# Altium integrated library QuickLogic pASIC 3.IntLib: 195 symbols (part 8 of 15)
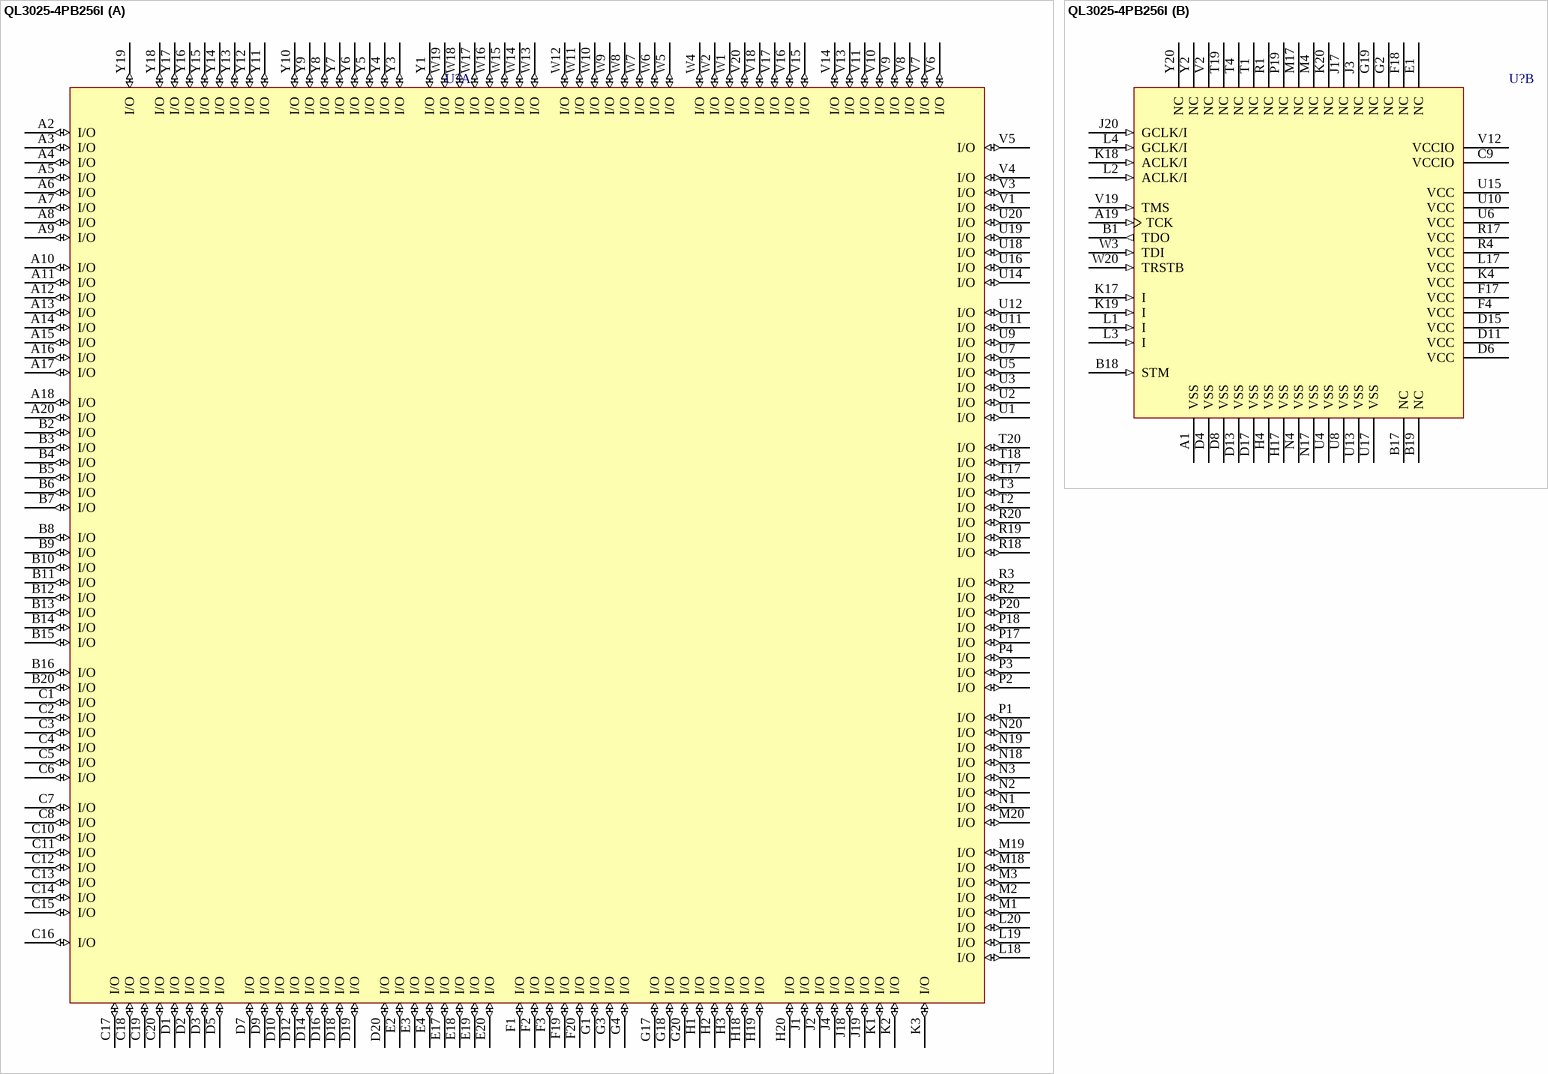
[diagram p138: symbol QL3025-4PB256I]

## QL3025-4PB256I
designator U?
3.3V and 5.0V FPGA, 204 I/Os Max; Published: 21-May-2003; LatestRevisionDate: 13-Apr-2006; LatestRevisionNote: IPC-7351 Footprint Added.; DatasheetVersion: Rev. B, April 1999; PackageVersion: Sep-2002; PackageReference: PB256; Publisher: Altium Limited; PackageDescription: 256-Ball Ball Grid Array 1.27 mm Pitch; ComponentLink1Description: Manufacturer Link; ComponentLink1URL: http://www.quicklogic.com/; ComponentLink2Description: Datasheet; ComponentLink2URL: http://www.quicklogic.com/images/QL3025_DS.pdf
footprint PB256 (BGA, 256-Leads, Body 27x27mm, Pitch 1.27mm)
3D model QL3025-PB256 (256-Ball Ball Grid Array 1.27 mm Pitch)
part A pins: A2 I/O (io), A3 I/O (io), A4 I/O (io), A5 I/O (io), A6 I/O (io), A7 I/O (io), A8 I/O (io), A9 I/O (io), A10 I/O (io), A11 I/O (io), A12 I/O (io), A13 I/O (io), A14 I/O (io), A15 I/O (io), A16 I/O (io), A17 I/O (io), A18 I/O (io), A20 I/O (io), B2 I/O (io), B3 I/O (io), B4 I/O (io), B5 I/O (io), B6 I/O (io), B7 I/O (io), B8 I/O (io), B9 I/O (io), B10 I/O (io), B11 I/O (io), B12 I/O (io), B13 I/O (io), B14 I/O (io), B15 I/O (io), B16 I/O (io), B20 I/O (io), C1 I/O (io), C2 I/O (io), C3 I/O (io), C4 I/O (io), C5 I/O (io), C6 I/O (io), C7 I/O (io), C8 I/O (io), C10 I/O (io), C11 I/O (io), C12 I/O (io), C13 I/O (io), C14 I/O (io), C15 I/O (io), C16 I/O (io), C17 I/O (io), C18 I/O (io), C19 I/O (io), C20 I/O (io), D1 I/O (io), D2 I/O (io), D3 I/O (io), D5 I/O (io), D7 I/O (io), D9 I/O (io), D10 I/O (io), D12 I/O (io), D14 I/O (io), D16 I/O (io), D18 I/O (io), D19 I/O (io), D20 I/O (io), E2 I/O (io), E3 I/O (io), E4 I/O (io), E17 I/O (io), E18 I/O (io), E19 I/O (io), E20 I/O (io), F1 I/O (io), F2 I/O (io), F3 I/O (io), F19 I/O (io), F20 I/O (io), G1 I/O (io), G3 I/O (io), G4 I/O (io), G17 I/O (io), G18 I/O (io), G20 I/O (io), H1 I/O (io), H2 I/O (io), H3 I/O (io), H18 I/O (io), H19 I/O (io), H20 I/O (io), J1 I/O (io), J2 I/O (io), J4 I/O (io), J18 I/O (io), J19 I/O (io), K1 I/O (io), K2 I/O (io), K3 I/O (io), L18 I/O (io), L19 I/O (io), L20 I/O (io), M1 I/O (io), M2 I/O (io), M3 I/O (io), M18 I/O (io), M19 I/O (io), M20 I/O (io), N1 I/O (io), N2 I/O (io), N3 I/O (io), N18 I/O (io), N19 I/O (io), N20 I/O (io), P1 I/O (io), P2 I/O (io), P3 I/O (io), P4 I/O (io), P17 I/O (io), P18 I/O (io), P20 I/O (io), R2 I/O (io), R3 I/O (io), R18 I/O (io), R19 I/O (io), R20 I/O (io), T2 I/O (io), T3 I/O (io), T17 I/O (io), T18 I/O (io), T20 I/O (io), U1 I/O (io), U2 I/O (io), U3 I/O (io), U5 I/O (io), U7 I/O (io), U9 I/O (io), U11 I/O (io), U12 I/O (io), U14 I/O (io), U16 I/O (io), U18 I/O (io), U19 I/O (io), U20 I/O (io), V1 I/O (io), V3 I/O (io), V4 I/O (io), V5 I/O (io), V6 I/O (io), V7 I/O (io), V8 I/O (io), V9 I/O (io), V10 I/O (io), V11 I/O (io), V13 I/O (io), V14 I/O (io), V15 I/O (io), V16 I/O (io), V17 I/O (io), V18 I/O (io), V20 I/O (io), W1 I/O (io), W2 I/O (io), W4 I/O (io), W5 I/O (io), W6 I/O (io), W7 I/O (io), W8 I/O (io), W9 I/O (io), W10 I/O (io), W11 I/O (io), W12 I/O (io), W13 I/O (io), W14 I/O (io), W15 I/O (io), W16 I/O (io), W17 I/O (io), W18 I/O (io), W19 I/O (io), Y1 I/O (io), Y3 I/O (io), Y4 I/O (io), Y5 I/O (io), Y6 I/O (io), Y7 I/O (io), Y8 I/O (io), Y9 I/O (io), Y10 I/O (io), Y11 I/O (io), Y12 I/O (io), Y13 I/O (io), Y14 I/O (io), Y15 I/O (io), Y16 I/O (io), Y17 I/O (io), Y18 I/O (io), Y19 I/O (io)
part B pins: A1 VSS (power), A19 TCK (in), B1 TDO (out), B17 NC, B18 STM (in), B19 NC, C9 VCCIO (power), D4 VSS (power), D6 VCC (power), D8 VSS (power), D11 VCC (power), D13 VSS (power), D15 VCC (power), D17 VSS (power), E1 NC, F4 VCC (power), F17 VCC (power), F18 NC, G2 NC, G19 NC, H4 VSS (power), H17 VSS (power), J3 NC, J17 NC, J20 GCLK/I (in), K4 VCC (power), K17 I (in), K18 ACLK/I (in), K19 I (in), K20 NC, L1 I (in), L2 ACLK/I (in), L3 I (in), L4 GCLK/I (in), L17 VCC (power), M4 NC, M17 NC, N4 VSS (power), N17 VSS (power), P19 NC, R1 NC, R4 VCC (power), R17 VCC (power), T1 NC, T4 NC, T19 NC, U4 VSS (power), U6 VCC (power), U8 VSS (power), U10 VCC (power), U13 VSS (power), U15 VCC (power), U17 VSS (power), V2 NC, V12 VCCIO (power), V19 TMS (in), W3 TDI (in), W20 TRSTB (in), Y2 NC, Y20 NC

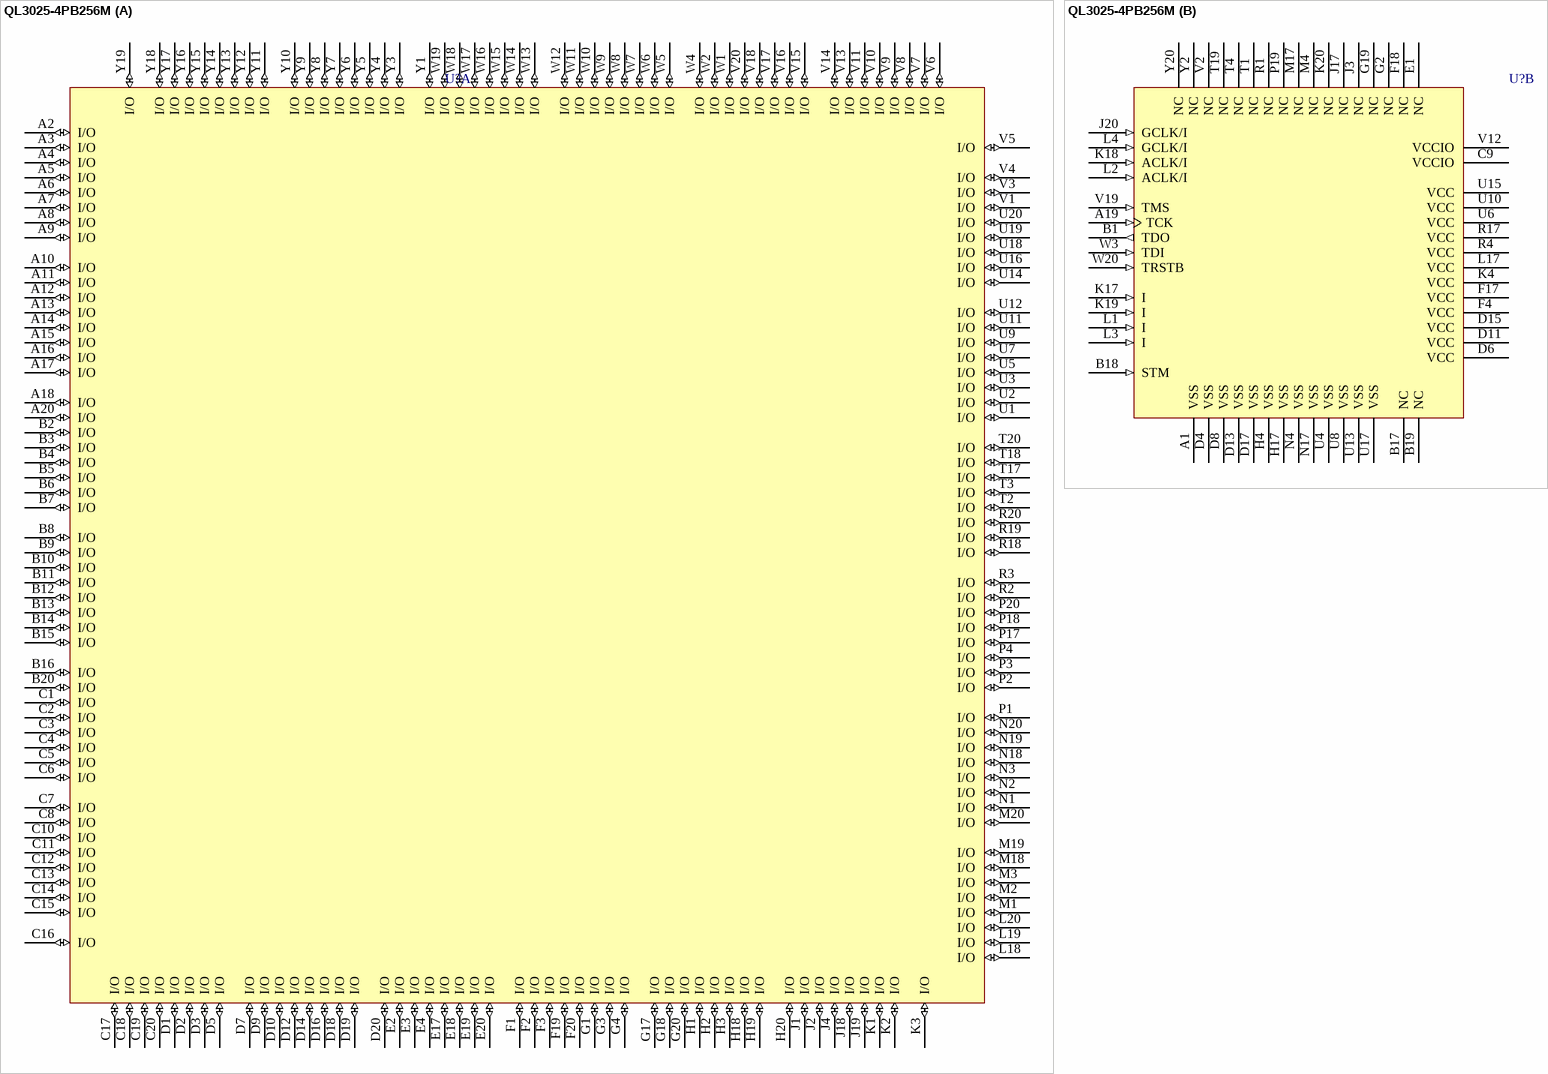
[diagram p55: symbol QL3025-4PB256M]

## QL3025-4PB256M
designator U?
3.3V and 5.0V FPGA, 204 I/Os Max; Published: 21-May-2003; LatestRevisionDate: 13-Apr-2006; LatestRevisionNote: IPC-7351 Footprint Added.; DatasheetVersion: Rev. B, April 1999; PackageVersion: Sep-2002; PackageReference: PB256; Publisher: Altium Limited; PackageDescription: 256-Ball Ball Grid Array 1.27 mm Pitch; ComponentLink1Description: Manufacturer Link; ComponentLink1URL: http://www.quicklogic.com/; ComponentLink2Description: Datasheet; ComponentLink2URL: http://www.quicklogic.com/images/QL3025_DS.pdf
footprint PB256 (BGA, 256-Leads, Body 27x27mm, Pitch 1.27mm)
3D model QL3025-PB256 (256-Ball Ball Grid Array 1.27 mm Pitch)
part A pins: A2 I/O (io), A3 I/O (io), A4 I/O (io), A5 I/O (io), A6 I/O (io), A7 I/O (io), A8 I/O (io), A9 I/O (io), A10 I/O (io), A11 I/O (io), A12 I/O (io), A13 I/O (io), A14 I/O (io), A15 I/O (io), A16 I/O (io), A17 I/O (io), A18 I/O (io), A20 I/O (io), B2 I/O (io), B3 I/O (io), B4 I/O (io), B5 I/O (io), B6 I/O (io), B7 I/O (io), B8 I/O (io), B9 I/O (io), B10 I/O (io), B11 I/O (io), B12 I/O (io), B13 I/O (io), B14 I/O (io), B15 I/O (io), B16 I/O (io), B20 I/O (io), C1 I/O (io), C2 I/O (io), C3 I/O (io), C4 I/O (io), C5 I/O (io), C6 I/O (io), C7 I/O (io), C8 I/O (io), C10 I/O (io), C11 I/O (io), C12 I/O (io), C13 I/O (io), C14 I/O (io), C15 I/O (io), C16 I/O (io), C17 I/O (io), C18 I/O (io), C19 I/O (io), C20 I/O (io), D1 I/O (io), D2 I/O (io), D3 I/O (io), D5 I/O (io), D7 I/O (io), D9 I/O (io), D10 I/O (io), D12 I/O (io), D14 I/O (io), D16 I/O (io), D18 I/O (io), D19 I/O (io), D20 I/O (io), E2 I/O (io), E3 I/O (io), E4 I/O (io), E17 I/O (io), E18 I/O (io), E19 I/O (io), E20 I/O (io), F1 I/O (io), F2 I/O (io), F3 I/O (io), F19 I/O (io), F20 I/O (io), G1 I/O (io), G3 I/O (io), G4 I/O (io), G17 I/O (io), G18 I/O (io), G20 I/O (io), H1 I/O (io), H2 I/O (io), H3 I/O (io), H18 I/O (io), H19 I/O (io), H20 I/O (io), J1 I/O (io), J2 I/O (io), J4 I/O (io), J18 I/O (io), J19 I/O (io), K1 I/O (io), K2 I/O (io), K3 I/O (io), L18 I/O (io), L19 I/O (io), L20 I/O (io), M1 I/O (io), M2 I/O (io), M3 I/O (io), M18 I/O (io), M19 I/O (io), M20 I/O (io), N1 I/O (io), N2 I/O (io), N3 I/O (io), N18 I/O (io), N19 I/O (io), N20 I/O (io), P1 I/O (io), P2 I/O (io), P3 I/O (io), P4 I/O (io), P17 I/O (io), P18 I/O (io), P20 I/O (io), R2 I/O (io), R3 I/O (io), R18 I/O (io), R19 I/O (io), R20 I/O (io), T2 I/O (io), T3 I/O (io), T17 I/O (io), T18 I/O (io), T20 I/O (io), U1 I/O (io), U2 I/O (io), U3 I/O (io), U5 I/O (io), U7 I/O (io), U9 I/O (io), U11 I/O (io), U12 I/O (io), U14 I/O (io), U16 I/O (io), U18 I/O (io), U19 I/O (io), U20 I/O (io), V1 I/O (io), V3 I/O (io), V4 I/O (io), V5 I/O (io), V6 I/O (io), V7 I/O (io), V8 I/O (io), V9 I/O (io), V10 I/O (io), V11 I/O (io), V13 I/O (io), V14 I/O (io), V15 I/O (io), V16 I/O (io), V17 I/O (io), V18 I/O (io), V20 I/O (io), W1 I/O (io), W2 I/O (io), W4 I/O (io), W5 I/O (io), W6 I/O (io), W7 I/O (io), W8 I/O (io), W9 I/O (io), W10 I/O (io), W11 I/O (io), W12 I/O (io), W13 I/O (io), W14 I/O (io), W15 I/O (io), W16 I/O (io), W17 I/O (io), W18 I/O (io), W19 I/O (io), Y1 I/O (io), Y3 I/O (io), Y4 I/O (io), Y5 I/O (io), Y6 I/O (io), Y7 I/O (io), Y8 I/O (io), Y9 I/O (io), Y10 I/O (io), Y11 I/O (io), Y12 I/O (io), Y13 I/O (io), Y14 I/O (io), Y15 I/O (io), Y16 I/O (io), Y17 I/O (io), Y18 I/O (io), Y19 I/O (io)
part B pins: A1 VSS (power), A19 TCK (in), B1 TDO (out), B17 NC, B18 STM (in), B19 NC, C9 VCCIO (power), D4 VSS (power), D6 VCC (power), D8 VSS (power), D11 VCC (power), D13 VSS (power), D15 VCC (power), D17 VSS (power), E1 NC, F4 VCC (power), F17 VCC (power), F18 NC, G2 NC, G19 NC, H4 VSS (power), H17 VSS (power), J3 NC, J17 NC, J20 GCLK/I (in), K4 VCC (power), K17 I (in), K18 ACLK/I (in), K19 I (in), K20 NC, L1 I (in), L2 ACLK/I (in), L3 I (in), L4 GCLK/I (in), L17 VCC (power), M4 NC, M17 NC, N4 VSS (power), N17 VSS (power), P19 NC, R1 NC, R4 VCC (power), R17 VCC (power), T1 NC, T4 NC, T19 NC, U4 VSS (power), U6 VCC (power), U8 VSS (power), U10 VCC (power), U13 VSS (power), U15 VCC (power), U17 VSS (power), V2 NC, V12 VCCIO (power), V19 TMS (in), W3 TDI (in), W20 TRSTB (in), Y2 NC, Y20 NC

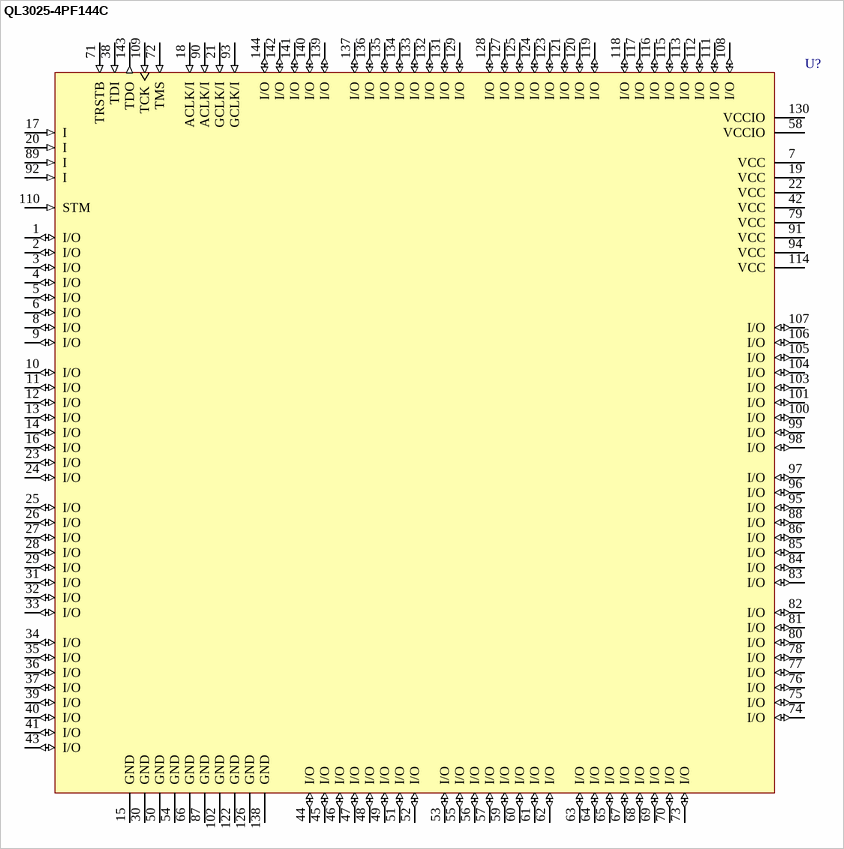
[diagram p56: symbol QL3025-4PF144C]

## QL3025-4PF144C
designator U?
3.3V and 5.0V FPGA, 118 I/Os Max; Published: 21-May-2003; LatestRevisionDate: 13-Apr-2006; LatestRevisionNote: IPC-7351 Footprint Added.; DatasheetVersion: Rev. B, April 1999; PackageVersion: Feb-1992; PackageReference: PF144; Publisher: Altium Limited; PackageDescription: 144-Pin Thin Plastic Quad Flat Pack 0.5 mm Pitch; ComponentLink1Description: Manufacturer Link; ComponentLink1URL: http://www.quicklogic.com/; ComponentLink2Description: Datasheet; ComponentLink2URL: http://www.quicklogic.com/images/QL3025_DS.pdf
footprint PF144_N (Thin QFP, 144-Leads, Body 20x20mm, Pitch 0.5mm, IPC Medium Density)
footprint PF144_L (Thin QFP, 144-Leads, Body 20x20mm, Pitch 0.5mm, IPC High Density)
footprint PF144_M (Thin QFP, 144-Leads, Body 20x20mm, Pitch 0.5mm, IPC Low Density)
3D model QL3025-PF144 (144-Pin Thin Plastic Quad Flat Pack 0.5 mm Pitch)
pins: 1 I/O (io), 2 I/O (io), 3 I/O (io), 4 I/O (io), 5 I/O (io), 6 I/O (io), 7 VCC (power), 8 I/O (io), 9 I/O (io), 10 I/O (io), 11 I/O (io), 12 I/O (io), 13 I/O (io), 14 I/O (io), 15 GND (power), 16 I/O (io), 17 I (in), 18 ACLK/I (in), 19 VCC (power), 20 I (in), 21 GCLK/I (in), 22 VCC (power), 23 I/O (io), 24 I/O (io), 25 I/O (io), 26 I/O (io), 27 I/O (io), 28 I/O (io), 29 I/O (io), 30 GND (power), 31 I/O (io), 32 I/O (io), 33 I/O (io), 34 I/O (io), 35 I/O (io), 36 I/O (io), 37 I/O (io), 38 TDI (in), 39 I/O (io), 40 I/O (io), 41 I/O (io), 42 VCC (power), 43 I/O (io), 44 I/O (io), 45 I/O (io), 46 I/O (io), 47 I/O (io), 48 I/O (io), 49 I/O (io), 50 GND (power), 51 I/O (io), 52 I/O (io), 53 I/O (io), 54 GND (power), 55 I/O (io), 56 I/O (io), 57 I/O (io), 58 VCCIO (power), 59 I/O (io), 60 I/O (io), 61 I/O (io), 62 I/O (io), 63 I/O (io), 64 I/O (io), 65 I/O (io), 66 GND (power), 67 I/O (io), 68 I/O (io), 69 I/O (io), 70 I/O (io), 71 TRSTB (in), 72 TMS (in), 73 I/O (io), 74 I/O (io), 75 I/O (io), 76 I/O (io), 77 I/O (io), 78 I/O (io), 79 VCC (power), 80 I/O (io), 81 I/O (io), 82 I/O (io), 83 I/O (io), 84 I/O (io), 85 I/O (io), 86 I/O (io), 87 GND (power), 88 I/O (io), 89 I (in), 90 ACLK/I (in), 91 VCC (power), 92 I (in), 93 GCLK/I (in), 94 VCC (power), 95 I/O (io), 96 I/O (io), 97 I/O (io), 98 I/O (io), 99 I/O (io), 100 I/O (io), 101 I/O (io), 102 GND (power), 103 I/O (io), 104 I/O (io), 105 I/O (io), 106 I/O (io), 107 I/O (io), 108 I/O (io), 109 TCK (in), 110 STM (in), 111 I/O (io), 112 I/O (io), 113 I/O (io), 114 VCC (power), 115 I/O (io), 116 I/O (io), 117 I/O (io), 118 I/O (io), 119 I/O (io), 120 I/O (io), 121 I/O (io), 122 GND (power), 123 I/O (io), 124 I/O (io), 125 I/O (io), 126 GND (power), 127 I/O (io), 128 I/O (io), 129 I/O (io), 130 VCCIO (power), 131 I/O (io), 132 I/O (io), 133 I/O (io), 134 I/O (io), 135 I/O (io), 136 I/O (io), 137 I/O (io), 138 GND (power), 139 I/O (io), 140 I/O (io), 141 I/O (io), 142 I/O (io), 143 TDO (out), 144 I/O (io)

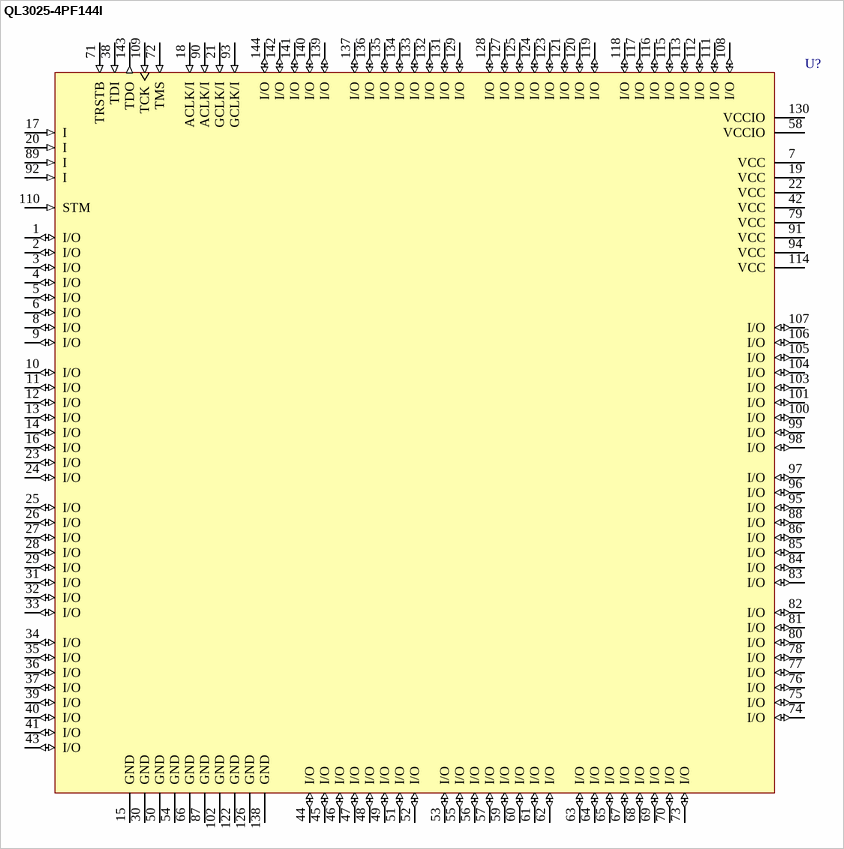
[diagram p57: symbol QL3025-4PF144I]

## QL3025-4PF144I
designator U?
3.3V and 5.0V FPGA, 118 I/Os Max; Published: 21-May-2003; LatestRevisionDate: 13-Apr-2006; LatestRevisionNote: IPC-7351 Footprint Added.; DatasheetVersion: Rev. B, April 1999; PackageVersion: Feb-1992; PackageReference: PF144; Publisher: Altium Limited; PackageDescription: 144-Pin Thin Plastic Quad Flat Pack 0.5 mm Pitch; ComponentLink1Description: Manufacturer Link; ComponentLink1URL: http://www.quicklogic.com/; ComponentLink2Description: Datasheet; ComponentLink2URL: http://www.quicklogic.com/images/QL3025_DS.pdf
footprint PF144_N (Thin QFP, 144-Leads, Body 20x20mm, Pitch 0.5mm, IPC Medium Density)
footprint PF144_L (Thin QFP, 144-Leads, Body 20x20mm, Pitch 0.5mm, IPC High Density)
footprint PF144_M (Thin QFP, 144-Leads, Body 20x20mm, Pitch 0.5mm, IPC Low Density)
3D model QL3025-PF144 (144-Pin Thin Plastic Quad Flat Pack 0.5 mm Pitch)
pins: 1 I/O (io), 2 I/O (io), 3 I/O (io), 4 I/O (io), 5 I/O (io), 6 I/O (io), 7 VCC (power), 8 I/O (io), 9 I/O (io), 10 I/O (io), 11 I/O (io), 12 I/O (io), 13 I/O (io), 14 I/O (io), 15 GND (power), 16 I/O (io), 17 I (in), 18 ACLK/I (in), 19 VCC (power), 20 I (in), 21 GCLK/I (in), 22 VCC (power), 23 I/O (io), 24 I/O (io), 25 I/O (io), 26 I/O (io), 27 I/O (io), 28 I/O (io), 29 I/O (io), 30 GND (power), 31 I/O (io), 32 I/O (io), 33 I/O (io), 34 I/O (io), 35 I/O (io), 36 I/O (io), 37 I/O (io), 38 TDI (in), 39 I/O (io), 40 I/O (io), 41 I/O (io), 42 VCC (power), 43 I/O (io), 44 I/O (io), 45 I/O (io), 46 I/O (io), 47 I/O (io), 48 I/O (io), 49 I/O (io), 50 GND (power), 51 I/O (io), 52 I/O (io), 53 I/O (io), 54 GND (power), 55 I/O (io), 56 I/O (io), 57 I/O (io), 58 VCCIO (power), 59 I/O (io), 60 I/O (io), 61 I/O (io), 62 I/O (io), 63 I/O (io), 64 I/O (io), 65 I/O (io), 66 GND (power), 67 I/O (io), 68 I/O (io), 69 I/O (io), 70 I/O (io), 71 TRSTB (in), 72 TMS (in), 73 I/O (io), 74 I/O (io), 75 I/O (io), 76 I/O (io), 77 I/O (io), 78 I/O (io), 79 VCC (power), 80 I/O (io), 81 I/O (io), 82 I/O (io), 83 I/O (io), 84 I/O (io), 85 I/O (io), 86 I/O (io), 87 GND (power), 88 I/O (io), 89 I (in), 90 ACLK/I (in), 91 VCC (power), 92 I (in), 93 GCLK/I (in), 94 VCC (power), 95 I/O (io), 96 I/O (io), 97 I/O (io), 98 I/O (io), 99 I/O (io), 100 I/O (io), 101 I/O (io), 102 GND (power), 103 I/O (io), 104 I/O (io), 105 I/O (io), 106 I/O (io), 107 I/O (io), 108 I/O (io), 109 TCK (in), 110 STM (in), 111 I/O (io), 112 I/O (io), 113 I/O (io), 114 VCC (power), 115 I/O (io), 116 I/O (io), 117 I/O (io), 118 I/O (io), 119 I/O (io), 120 I/O (io), 121 I/O (io), 122 GND (power), 123 I/O (io), 124 I/O (io), 125 I/O (io), 126 GND (power), 127 I/O (io), 128 I/O (io), 129 I/O (io), 130 VCCIO (power), 131 I/O (io), 132 I/O (io), 133 I/O (io), 134 I/O (io), 135 I/O (io), 136 I/O (io), 137 I/O (io), 138 GND (power), 139 I/O (io), 140 I/O (io), 141 I/O (io), 142 I/O (io), 143 TDO (out), 144 I/O (io)

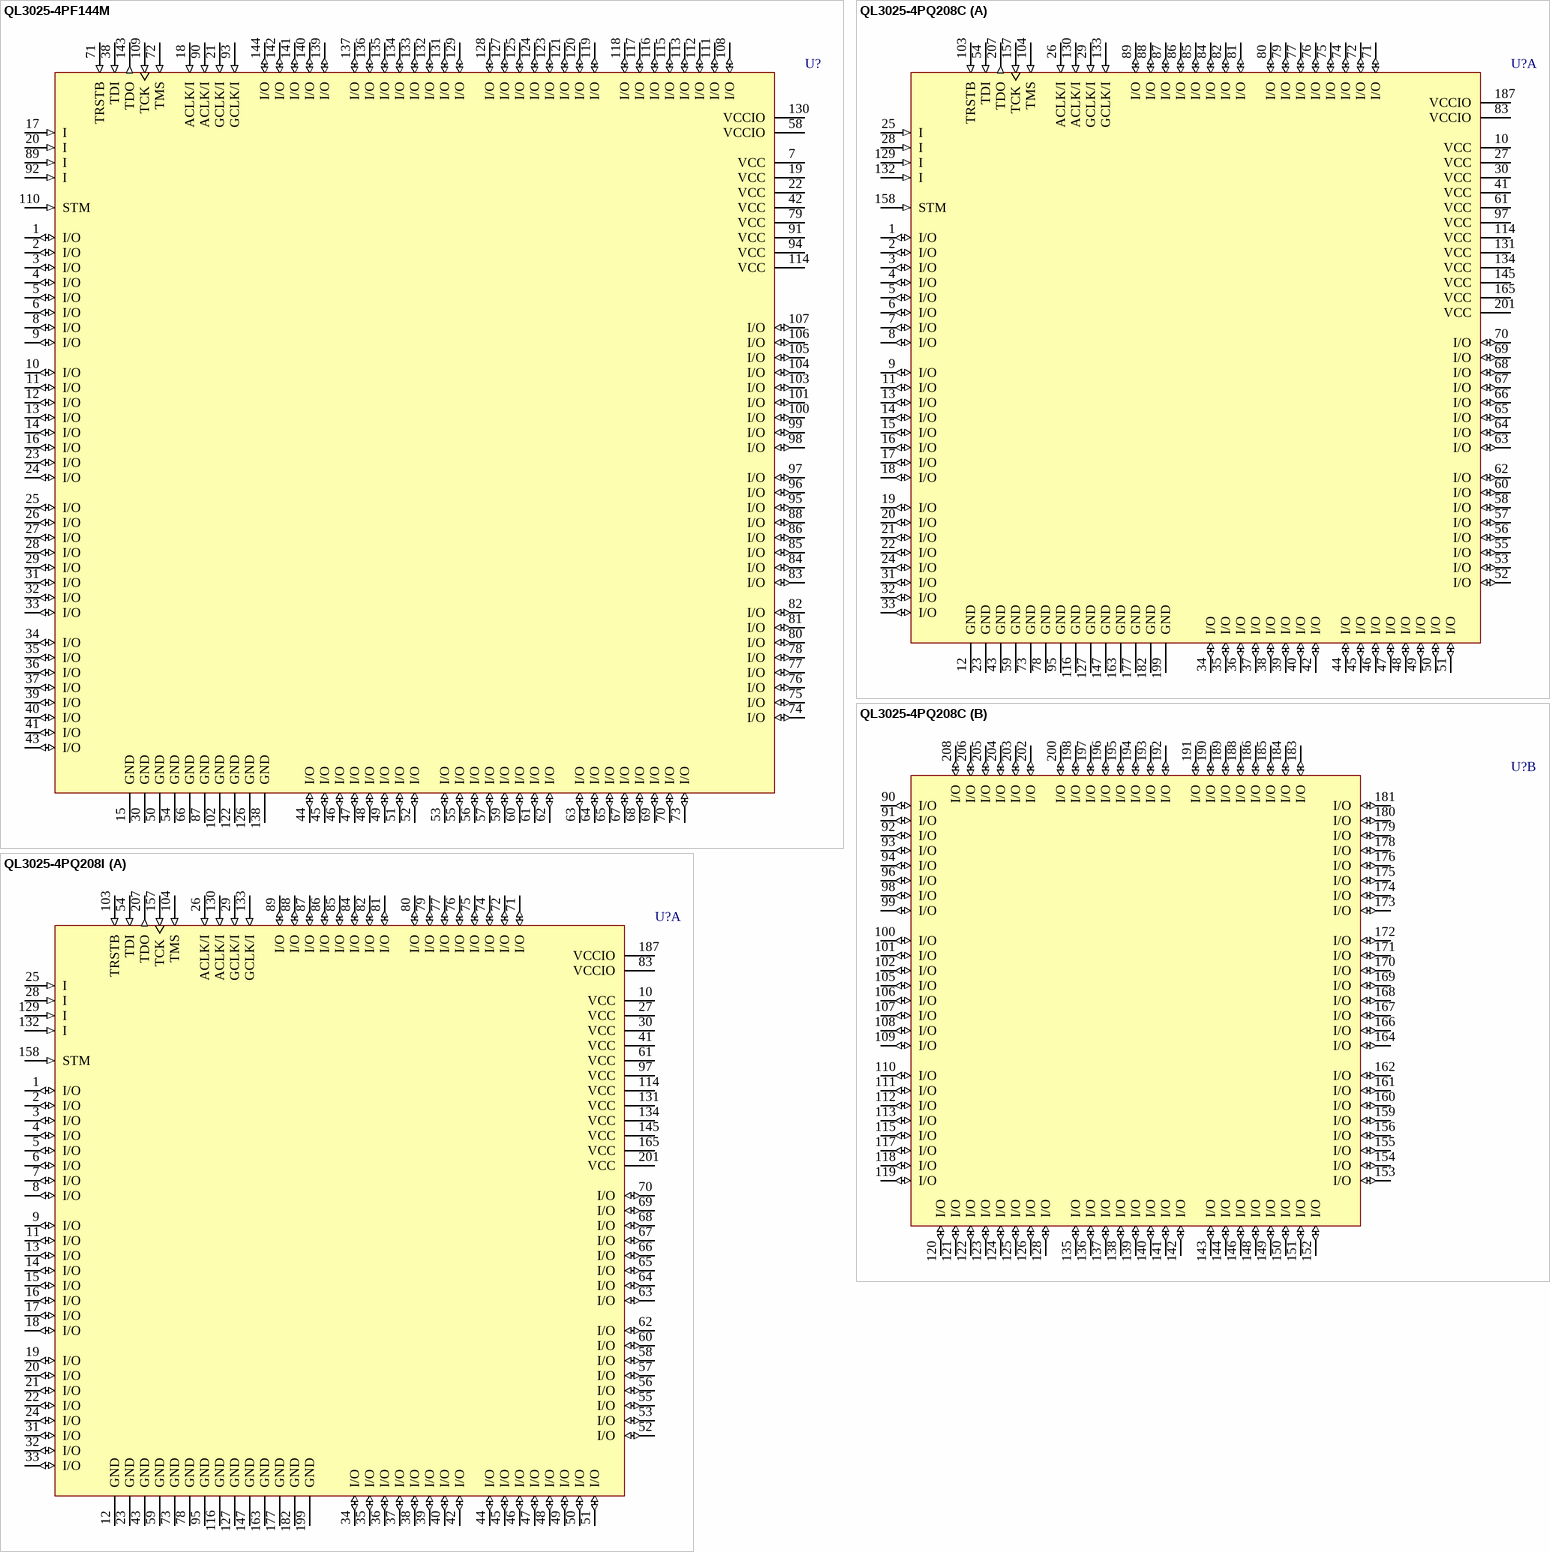
[diagram p58: symbols QL3025-4PF144M to QL3025-4PQ208I]

## QL3025-4PF144M
designator U?
3.3V and 5.0V FPGA, 118 I/Os Max; Published: 21-May-2003; LatestRevisionDate: 13-Apr-2006; LatestRevisionNote: IPC-7351 Footprint Added.; DatasheetVersion: Rev. B, April 1999; PackageVersion: Feb-1992; PackageReference: PF144; Publisher: Altium Limited; PackageDescription: 144-Pin Thin Plastic Quad Flat Pack 0.5 mm Pitch; ComponentLink1Description: Manufacturer Link; ComponentLink1URL: http://www.quicklogic.com/; ComponentLink2Description: Datasheet; ComponentLink2URL: http://www.quicklogic.com/images/QL3025_DS.pdf
footprint PF144_N (Thin QFP, 144-Leads, Body 20x20mm, Pitch 0.5mm, IPC Medium Density)
footprint PF144_L (Thin QFP, 144-Leads, Body 20x20mm, Pitch 0.5mm, IPC High Density)
footprint PF144_M (Thin QFP, 144-Leads, Body 20x20mm, Pitch 0.5mm, IPC Low Density)
3D model QL3025-PF144 (144-Pin Thin Plastic Quad Flat Pack 0.5 mm Pitch)
pins: 1 I/O (io), 2 I/O (io), 3 I/O (io), 4 I/O (io), 5 I/O (io), 6 I/O (io), 7 VCC (power), 8 I/O (io), 9 I/O (io), 10 I/O (io), 11 I/O (io), 12 I/O (io), 13 I/O (io), 14 I/O (io), 15 GND (power), 16 I/O (io), 17 I (in), 18 ACLK/I (in), 19 VCC (power), 20 I (in), 21 GCLK/I (in), 22 VCC (power), 23 I/O (io), 24 I/O (io), 25 I/O (io), 26 I/O (io), 27 I/O (io), 28 I/O (io), 29 I/O (io), 30 GND (power), 31 I/O (io), 32 I/O (io), 33 I/O (io), 34 I/O (io), 35 I/O (io), 36 I/O (io), 37 I/O (io), 38 TDI (in), 39 I/O (io), 40 I/O (io), 41 I/O (io), 42 VCC (power), 43 I/O (io), 44 I/O (io), 45 I/O (io), 46 I/O (io), 47 I/O (io), 48 I/O (io), 49 I/O (io), 50 GND (power), 51 I/O (io), 52 I/O (io), 53 I/O (io), 54 GND (power), 55 I/O (io), 56 I/O (io), 57 I/O (io), 58 VCCIO (power), 59 I/O (io), 60 I/O (io), 61 I/O (io), 62 I/O (io), 63 I/O (io), 64 I/O (io), 65 I/O (io), 66 GND (power), 67 I/O (io), 68 I/O (io), 69 I/O (io), 70 I/O (io), 71 TRSTB (in), 72 TMS (in), 73 I/O (io), 74 I/O (io), 75 I/O (io), 76 I/O (io), 77 I/O (io), 78 I/O (io), 79 VCC (power), 80 I/O (io), 81 I/O (io), 82 I/O (io), 83 I/O (io), 84 I/O (io), 85 I/O (io), 86 I/O (io), 87 GND (power), 88 I/O (io), 89 I (in), 90 ACLK/I (in), 91 VCC (power), 92 I (in), 93 GCLK/I (in), 94 VCC (power), 95 I/O (io), 96 I/O (io), 97 I/O (io), 98 I/O (io), 99 I/O (io), 100 I/O (io), 101 I/O (io), 102 GND (power), 103 I/O (io), 104 I/O (io), 105 I/O (io), 106 I/O (io), 107 I/O (io), 108 I/O (io), 109 TCK (in), 110 STM (in), 111 I/O (io), 112 I/O (io), 113 I/O (io), 114 VCC (power), 115 I/O (io), 116 I/O (io), 117 I/O (io), 118 I/O (io), 119 I/O (io), 120 I/O (io), 121 I/O (io), 122 GND (power), 123 I/O (io), 124 I/O (io), 125 I/O (io), 126 GND (power), 127 I/O (io), 128 I/O (io), 129 I/O (io), 130 VCCIO (power), 131 I/O (io), 132 I/O (io), 133 I/O (io), 134 I/O (io), 135 I/O (io), 136 I/O (io), 137 I/O (io), 138 GND (power), 139 I/O (io), 140 I/O (io), 141 I/O (io), 142 I/O (io), 143 TDO (out), 144 I/O (io)

## QL3025-4PQ208C
designator U?
3.3V and 5.0V FPGA, 174 I/Os Max; Published: 21-May-2003; LatestRevisionDate: 13-Apr-2006; LatestRevisionNote: IPC-7351 Footprint Added.; DatasheetVersion: Rev. B, April 1999; PackageVersion: Feb-1995; PackageReference: PQ208; Publisher: Altium Limited; PackageDescription: 208-Pin Shrink Quad Flat Pack 0.5 mm Pitch; ComponentLink1Description: Manufacturer Link; ComponentLink1URL: http://www.quicklogic.com/; ComponentLink2Description: Datasheet; ComponentLink2URL: http://www.quicklogic.com/images/QL3025_DS.pdf
footprint PQ208_N (Shrink QFP, 208-Leads, Body 28x28mm, Pitch 0.5mm, IPC Medium Density)
footprint PQ208_L (Shrink QFP, 208-Leads, Body 28x28mm, Pitch 0.5mm, IPC High Density)
footprint PQ208_M (Shrink QFP, 208-Leads, Body 28x28mm, Pitch 0.5mm, IPC Low Density)
3D model QL3025-PQ208 (208-Pin Shrink Quad Flat Pack 0.5 mm Pitch)
part A pins: 1 I/O (io), 2 I/O (io), 3 I/O (io), 4 I/O (io), 5 I/O (io), 6 I/O (io), 7 I/O (io), 8 I/O (io), 9 I/O (io), 10 VCC (power), 11 I/O (io), 12 GND (power), 13 I/O (io), 14 I/O (io), 15 I/O (io), 16 I/O (io), 17 I/O (io), 18 I/O (io), 19 I/O (io), 20 I/O (io), 21 I/O (io), 22 I/O (io), 23 GND (power), 24 I/O (io), 25 I (in), 26 ACLK/I (in), 27 VCC (power), 28 I (in), 29 GCLK/I (in), 30 VCC (power), 31 I/O (io), 32 I/O (io), 33 I/O (io), 34 I/O (io), 35 I/O (io), 36 I/O (io), 37 I/O (io), 38 I/O (io), 39 I/O (io), 40 I/O (io), 41 VCC (power), 42 I/O (io), 43 GND (power), 44 I/O (io), 45 I/O (io), 46 I/O (io), 47 I/O (io), 48 I/O (io), 49 I/O (io), 50 I/O (io), 51 I/O (io), 52 I/O (io), 53 I/O (io), 54 TDI (in), 55 I/O (io), 56 I/O (io), 57 I/O (io), 58 I/O (io), 59 GND (power), 60 I/O (io), 61 VCC (power), 62 I/O (io), 63 I/O (io), 64 I/O (io), 65 I/O (io), 66 I/O (io), 67 I/O (io), 68 I/O (io), 69 I/O (io), 70 I/O (io), 71 I/O (io), 72 I/O (io), 73 GND (power), 74 I/O (io), 75 I/O (io), 76 I/O (io), 77 I/O (io), 78 GND (power), 79 I/O (io), 80 I/O (io), 81 I/O (io), 82 I/O (io), 83 VCCIO (power), 84 I/O (io), 85 I/O (io), 86 I/O (io), 87 I/O (io), 88 I/O (io), 89 I/O (io), 95 GND (power), 97 VCC (power), 103 TRSTB (in), 104 TMS (in), 114 VCC (power), 116 GND (power), 127 GND (power), 129 I (in), 130 ACLK/I (in), 131 VCC (power), 132 I (in), 133 GCLK/I (in), 134 VCC (power), 145 VCC (power), 147 GND (power), 157 TCK (in), 158 STM (in), 163 GND (power), 165 VCC (power), 177 GND (power), 182 GND (power), 187 VCCIO (power), 199 GND (power), 201 VCC (power), 207 TDO (out)
part B pins: 90 I/O (io), 91 I/O (io), 92 I/O (io), 93 I/O (io), 94 I/O (io), 96 I/O (io), 98 I/O (io), 99 I/O (io), 100 I/O (io), 101 I/O (io), 102 I/O (io), 105 I/O (io), 106 I/O (io), 107 I/O (io), 108 I/O (io), 109 I/O (io), 110 I/O (io), 111 I/O (io), 112 I/O (io), 113 I/O (io), 115 I/O (io), 117 I/O (io), 118 I/O (io), 119 I/O (io), 120 I/O (io), 121 I/O (io), 122 I/O (io), 123 I/O (io), 124 I/O (io), 125 I/O (io), 126 I/O (io), 128 I/O (io), 135 I/O (io), 136 I/O (io), 137 I/O (io), 138 I/O (io), 139 I/O (io), 140 I/O (io), 141 I/O (io), 142 I/O (io), 143 I/O (io), 144 I/O (io), 146 I/O (io), 148 I/O (io), 149 I/O (io), 150 I/O (io), 151 I/O (io), 152 I/O (io), 153 I/O (io), 154 I/O (io), 155 I/O (io), 156 I/O (io), 159 I/O (io), 160 I/O (io), 161 I/O (io), 162 I/O (io), 164 I/O (io), 166 I/O (io), 167 I/O (io), 168 I/O (io), 169 I/O (io), 170 I/O (io), 171 I/O (io), 172 I/O (io), 173 I/O (io), 174 I/O (io), 175 I/O (io), 176 I/O (io), 178 I/O (io), 179 I/O (io), 180 I/O (io), 181 I/O (io), 183 I/O (io), 184 I/O (io), 185 I/O (io), 186 I/O (io), 188 I/O (io), 189 I/O (io), 190 I/O (io), 191 I/O (io), 192 I/O (io), 193 I/O (io), 194 I/O (io), 195 I/O (io), 196 I/O (io), 197 I/O (io), 198 I/O (io), 200 I/O (io), 202 I/O (io), 203 I/O (io), 204 I/O (io), 205 I/O (io), 206 I/O (io), 208 I/O (io)

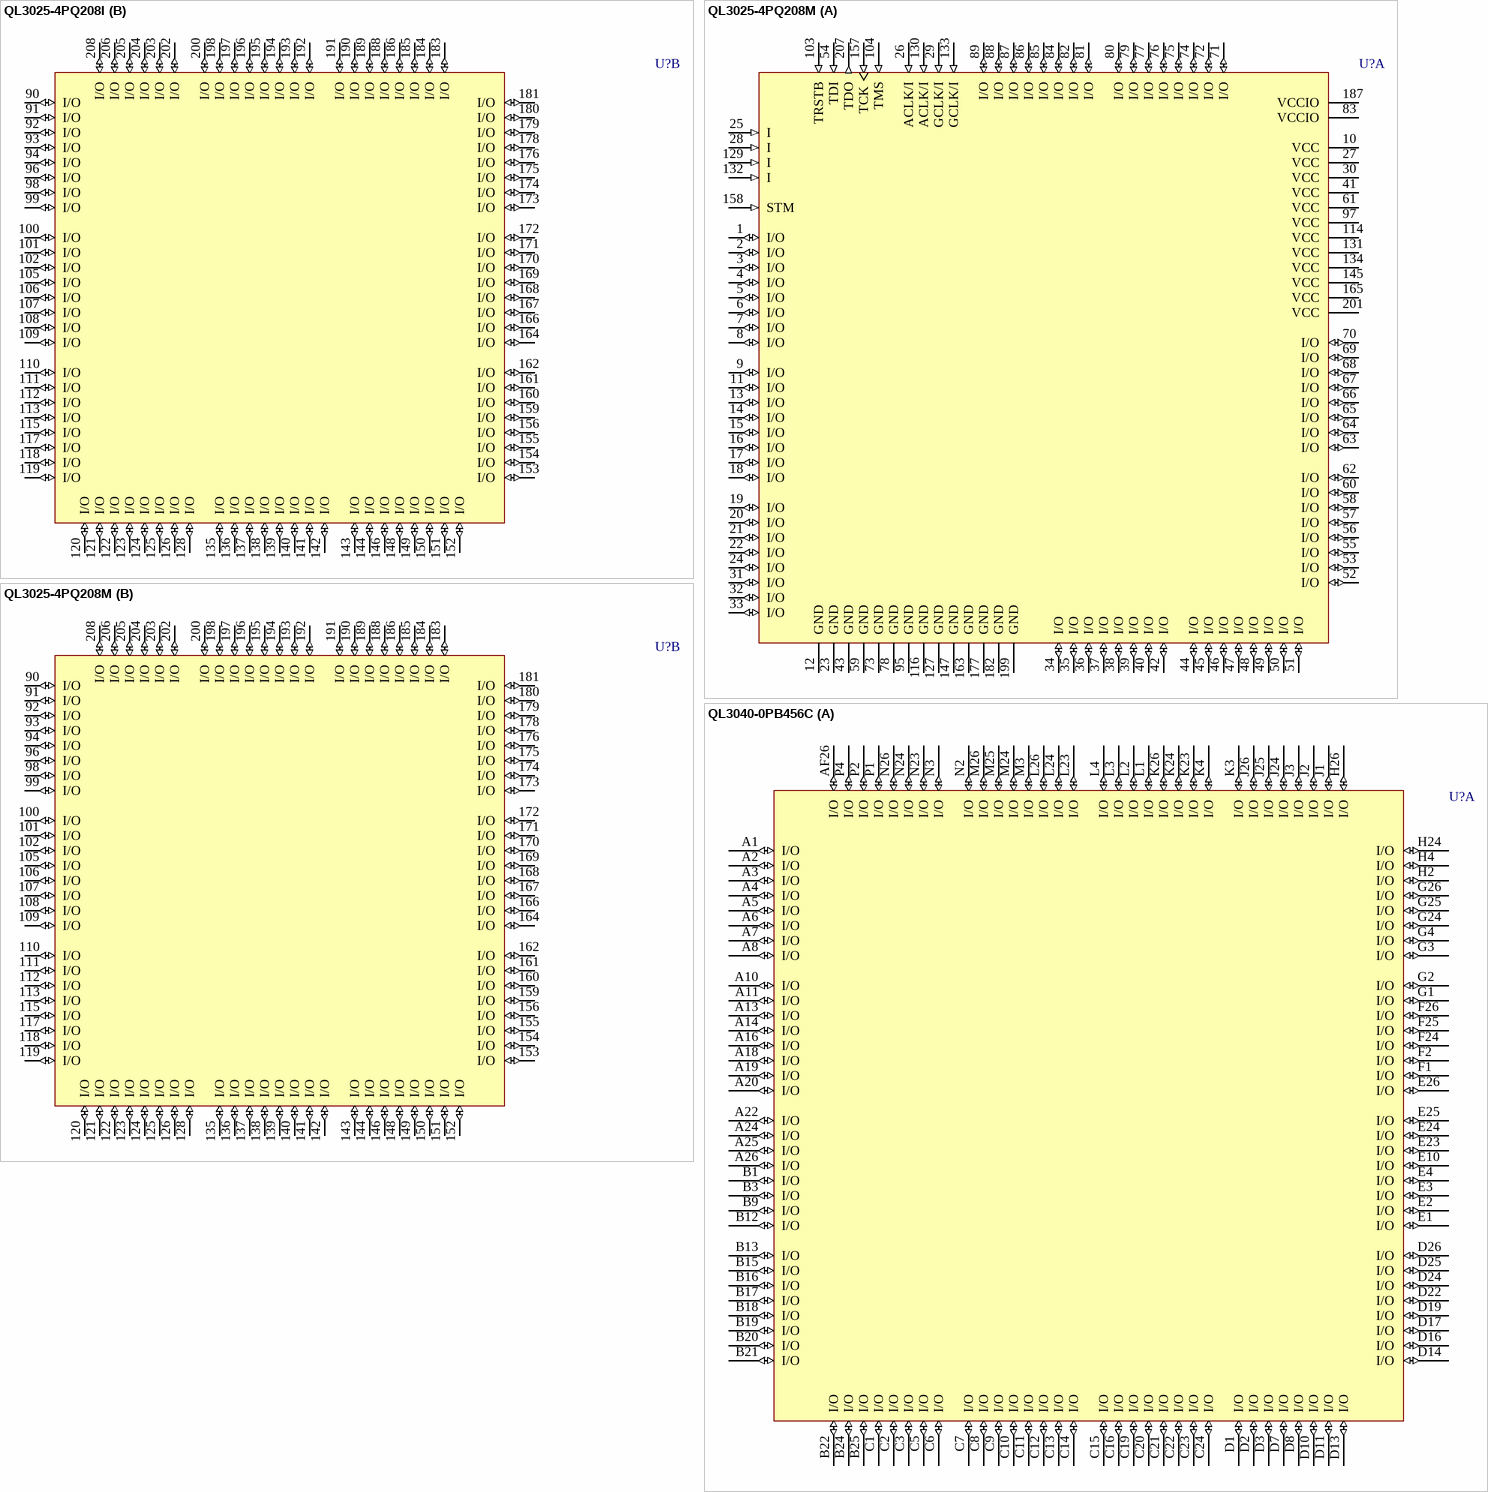
[diagram p59: symbols QL3025-4PQ208I to QL3040-0PB456C]

## QL3025-4PQ208I
designator U?
3.3V and 5.0V FPGA, 174 I/Os Max; Published: 21-May-2003; LatestRevisionDate: 13-Apr-2006; LatestRevisionNote: IPC-7351 Footprint Added.; DatasheetVersion: Rev. B, April 1999; PackageVersion: Feb-1995; PackageReference: PQ208; Publisher: Altium Limited; PackageDescription: 208-Pin Shrink Quad Flat Pack 0.5 mm Pitch; ComponentLink1Description: Manufacturer Link; ComponentLink1URL: http://www.quicklogic.com/; ComponentLink2Description: Datasheet; ComponentLink2URL: http://www.quicklogic.com/images/QL3025_DS.pdf
footprint PQ208_N (Shrink QFP, 208-Leads, Body 28x28mm, Pitch 0.5mm, IPC Medium Density)
footprint PQ208_L (Shrink QFP, 208-Leads, Body 28x28mm, Pitch 0.5mm, IPC High Density)
footprint PQ208_M (Shrink QFP, 208-Leads, Body 28x28mm, Pitch 0.5mm, IPC Low Density)
3D model QL3025-PQ208 (208-Pin Shrink Quad Flat Pack 0.5 mm Pitch)
part A pins: 1 I/O (io), 2 I/O (io), 3 I/O (io), 4 I/O (io), 5 I/O (io), 6 I/O (io), 7 I/O (io), 8 I/O (io), 9 I/O (io), 10 VCC (power), 11 I/O (io), 12 GND (power), 13 I/O (io), 14 I/O (io), 15 I/O (io), 16 I/O (io), 17 I/O (io), 18 I/O (io), 19 I/O (io), 20 I/O (io), 21 I/O (io), 22 I/O (io), 23 GND (power), 24 I/O (io), 25 I (in), 26 ACLK/I (in), 27 VCC (power), 28 I (in), 29 GCLK/I (in), 30 VCC (power), 31 I/O (io), 32 I/O (io), 33 I/O (io), 34 I/O (io), 35 I/O (io), 36 I/O (io), 37 I/O (io), 38 I/O (io), 39 I/O (io), 40 I/O (io), 41 VCC (power), 42 I/O (io), 43 GND (power), 44 I/O (io), 45 I/O (io), 46 I/O (io), 47 I/O (io), 48 I/O (io), 49 I/O (io), 50 I/O (io), 51 I/O (io), 52 I/O (io), 53 I/O (io), 54 TDI (in), 55 I/O (io), 56 I/O (io), 57 I/O (io), 58 I/O (io), 59 GND (power), 60 I/O (io), 61 VCC (power), 62 I/O (io), 63 I/O (io), 64 I/O (io), 65 I/O (io), 66 I/O (io), 67 I/O (io), 68 I/O (io), 69 I/O (io), 70 I/O (io), 71 I/O (io), 72 I/O (io), 73 GND (power), 74 I/O (io), 75 I/O (io), 76 I/O (io), 77 I/O (io), 78 GND (power), 79 I/O (io), 80 I/O (io), 81 I/O (io), 82 I/O (io), 83 VCCIO (power), 84 I/O (io), 85 I/O (io), 86 I/O (io), 87 I/O (io), 88 I/O (io), 89 I/O (io), 95 GND (power), 97 VCC (power), 103 TRSTB (in), 104 TMS (in), 114 VCC (power), 116 GND (power), 127 GND (power), 129 I (in), 130 ACLK/I (in), 131 VCC (power), 132 I (in), 133 GCLK/I (in), 134 VCC (power), 145 VCC (power), 147 GND (power), 157 TCK (in), 158 STM (in), 163 GND (power), 165 VCC (power), 177 GND (power), 182 GND (power), 187 VCCIO (power), 199 GND (power), 201 VCC (power), 207 TDO (out)
part B pins: 90 I/O (io), 91 I/O (io), 92 I/O (io), 93 I/O (io), 94 I/O (io), 96 I/O (io), 98 I/O (io), 99 I/O (io), 100 I/O (io), 101 I/O (io), 102 I/O (io), 105 I/O (io), 106 I/O (io), 107 I/O (io), 108 I/O (io), 109 I/O (io), 110 I/O (io), 111 I/O (io), 112 I/O (io), 113 I/O (io), 115 I/O (io), 117 I/O (io), 118 I/O (io), 119 I/O (io), 120 I/O (io), 121 I/O (io), 122 I/O (io), 123 I/O (io), 124 I/O (io), 125 I/O (io), 126 I/O (io), 128 I/O (io), 135 I/O (io), 136 I/O (io), 137 I/O (io), 138 I/O (io), 139 I/O (io), 140 I/O (io), 141 I/O (io), 142 I/O (io), 143 I/O (io), 144 I/O (io), 146 I/O (io), 148 I/O (io), 149 I/O (io), 150 I/O (io), 151 I/O (io), 152 I/O (io), 153 I/O (io), 154 I/O (io), 155 I/O (io), 156 I/O (io), 159 I/O (io), 160 I/O (io), 161 I/O (io), 162 I/O (io), 164 I/O (io), 166 I/O (io), 167 I/O (io), 168 I/O (io), 169 I/O (io), 170 I/O (io), 171 I/O (io), 172 I/O (io), 173 I/O (io), 174 I/O (io), 175 I/O (io), 176 I/O (io), 178 I/O (io), 179 I/O (io), 180 I/O (io), 181 I/O (io), 183 I/O (io), 184 I/O (io), 185 I/O (io), 186 I/O (io), 188 I/O (io), 189 I/O (io), 190 I/O (io), 191 I/O (io), 192 I/O (io), 193 I/O (io), 194 I/O (io), 195 I/O (io), 196 I/O (io), 197 I/O (io), 198 I/O (io), 200 I/O (io), 202 I/O (io), 203 I/O (io), 204 I/O (io), 205 I/O (io), 206 I/O (io), 208 I/O (io)

## QL3025-4PQ208M
designator U?
3.3V and 5.0V FPGA, 174 I/Os Max; Published: 21-May-2003; LatestRevisionDate: 13-Apr-2006; LatestRevisionNote: IPC-7351 Footprint Added.; DatasheetVersion: Rev. B, April 1999; PackageVersion: Feb-1995; PackageReference: PQ208; Publisher: Altium Limited; PackageDescription: 208-Pin Shrink Quad Flat Pack 0.5 mm Pitch; ComponentLink1Description: Manufacturer Link; ComponentLink1URL: http://www.quicklogic.com/; ComponentLink2Description: Datasheet; ComponentLink2URL: http://www.quicklogic.com/images/QL3025_DS.pdf
footprint PQ208_N (Shrink QFP, 208-Leads, Body 28x28mm, Pitch 0.5mm, IPC Medium Density)
footprint PQ208_L (Shrink QFP, 208-Leads, Body 28x28mm, Pitch 0.5mm, IPC High Density)
footprint PQ208_M (Shrink QFP, 208-Leads, Body 28x28mm, Pitch 0.5mm, IPC Low Density)
3D model QL3025-PQ208 (208-Pin Shrink Quad Flat Pack 0.5 mm Pitch)
part A pins: 1 I/O (io), 2 I/O (io), 3 I/O (io), 4 I/O (io), 5 I/O (io), 6 I/O (io), 7 I/O (io), 8 I/O (io), 9 I/O (io), 10 VCC (power), 11 I/O (io), 12 GND (power), 13 I/O (io), 14 I/O (io), 15 I/O (io), 16 I/O (io), 17 I/O (io), 18 I/O (io), 19 I/O (io), 20 I/O (io), 21 I/O (io), 22 I/O (io), 23 GND (power), 24 I/O (io), 25 I (in), 26 ACLK/I (in), 27 VCC (power), 28 I (in), 29 GCLK/I (in), 30 VCC (power), 31 I/O (io), 32 I/O (io), 33 I/O (io), 34 I/O (io), 35 I/O (io), 36 I/O (io), 37 I/O (io), 38 I/O (io), 39 I/O (io), 40 I/O (io), 41 VCC (power), 42 I/O (io), 43 GND (power), 44 I/O (io), 45 I/O (io), 46 I/O (io), 47 I/O (io), 48 I/O (io), 49 I/O (io), 50 I/O (io), 51 I/O (io), 52 I/O (io), 53 I/O (io), 54 TDI (in), 55 I/O (io), 56 I/O (io), 57 I/O (io), 58 I/O (io), 59 GND (power), 60 I/O (io), 61 VCC (power), 62 I/O (io), 63 I/O (io), 64 I/O (io), 65 I/O (io), 66 I/O (io), 67 I/O (io), 68 I/O (io), 69 I/O (io), 70 I/O (io), 71 I/O (io), 72 I/O (io), 73 GND (power), 74 I/O (io), 75 I/O (io), 76 I/O (io), 77 I/O (io), 78 GND (power), 79 I/O (io), 80 I/O (io), 81 I/O (io), 82 I/O (io), 83 VCCIO (power), 84 I/O (io), 85 I/O (io), 86 I/O (io), 87 I/O (io), 88 I/O (io), 89 I/O (io), 95 GND (power), 97 VCC (power), 103 TRSTB (in), 104 TMS (in), 114 VCC (power), 116 GND (power), 127 GND (power), 129 I (in), 130 ACLK/I (in), 131 VCC (power), 132 I (in), 133 GCLK/I (in), 134 VCC (power), 145 VCC (power), 147 GND (power), 157 TCK (in), 158 STM (in), 163 GND (power), 165 VCC (power), 177 GND (power), 182 GND (power), 187 VCCIO (power), 199 GND (power), 201 VCC (power), 207 TDO (out)
part B pins: 90 I/O (io), 91 I/O (io), 92 I/O (io), 93 I/O (io), 94 I/O (io), 96 I/O (io), 98 I/O (io), 99 I/O (io), 100 I/O (io), 101 I/O (io), 102 I/O (io), 105 I/O (io), 106 I/O (io), 107 I/O (io), 108 I/O (io), 109 I/O (io), 110 I/O (io), 111 I/O (io), 112 I/O (io), 113 I/O (io), 115 I/O (io), 117 I/O (io), 118 I/O (io), 119 I/O (io), 120 I/O (io), 121 I/O (io), 122 I/O (io), 123 I/O (io), 124 I/O (io), 125 I/O (io), 126 I/O (io), 128 I/O (io), 135 I/O (io), 136 I/O (io), 137 I/O (io), 138 I/O (io), 139 I/O (io), 140 I/O (io), 141 I/O (io), 142 I/O (io), 143 I/O (io), 144 I/O (io), 146 I/O (io), 148 I/O (io), 149 I/O (io), 150 I/O (io), 151 I/O (io), 152 I/O (io), 153 I/O (io), 154 I/O (io), 155 I/O (io), 156 I/O (io), 159 I/O (io), 160 I/O (io), 161 I/O (io), 162 I/O (io), 164 I/O (io), 166 I/O (io), 167 I/O (io), 168 I/O (io), 169 I/O (io), 170 I/O (io), 171 I/O (io), 172 I/O (io), 173 I/O (io), 174 I/O (io), 175 I/O (io), 176 I/O (io), 178 I/O (io), 179 I/O (io), 180 I/O (io), 181 I/O (io), 183 I/O (io), 184 I/O (io), 185 I/O (io), 186 I/O (io), 188 I/O (io), 189 I/O (io), 190 I/O (io), 191 I/O (io), 192 I/O (io), 193 I/O (io), 194 I/O (io), 195 I/O (io), 196 I/O (io), 197 I/O (io), 198 I/O (io), 200 I/O (io), 202 I/O (io), 203 I/O (io), 204 I/O (io), 205 I/O (io), 206 I/O (io), 208 I/O (io)

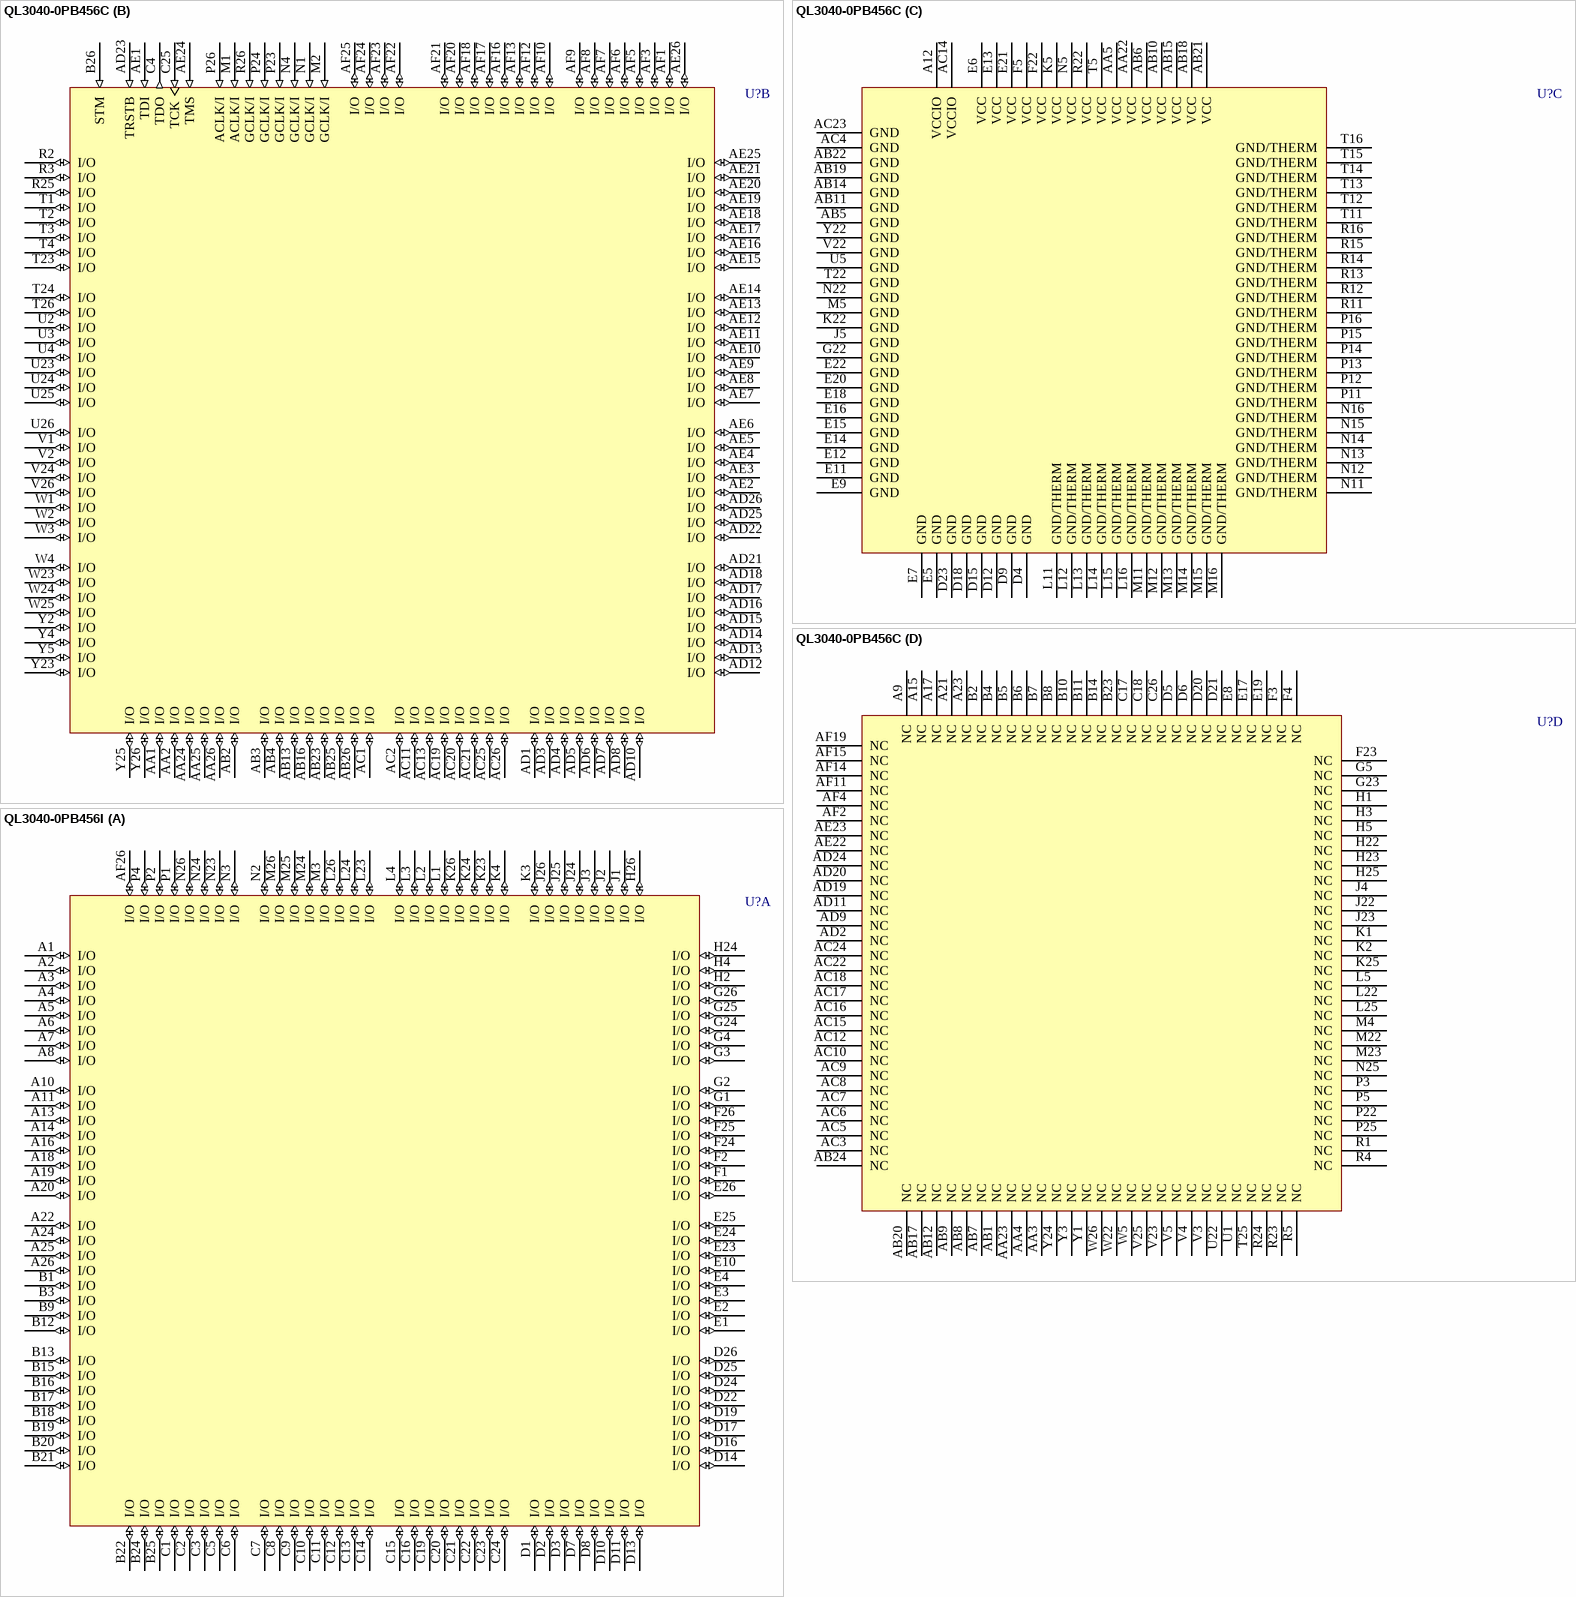
[diagram p60: symbols QL3040-0PB456C to QL3040-0PB456I]

## QL3040-0PB456C
designator U?
3.3V and 5.0V FPGA, 256 I/Os Max; Published: 21-May-2003; LatestRevisionDate: 13-Apr-2006; LatestRevisionNote: IPC-7351 Footprint Added.; DatasheetVersion: Rev. C, April 1999; PackageVersion: May-2001; PackageReference: PB456; Publisher: Altium Limited; PackageDescription: 456-Ball Ball Grid Array 1.27 mm Pitch; Code_JEDEC: MS-034-BAR-2; ComponentLink1Description: Manufacturer Link; ComponentLink1URL: http://www.quicklogic.com/; ComponentLink2Description: Datasheet; ComponentLink2URL: http://www.quicklogic.com/images/QL3040_DS.pdf
footprint PB456 (BGA, 456-Leads, Body 35x35mm, Pitch 1.27mm)
3D model QL3040-PB456 (456-Ball Ball Grid Array 1.27 mm Pitch)
part A pins: A1 I/O (io), A2 I/O (io), A3 I/O (io), A4 I/O (io), A5 I/O (io), A6 I/O (io), A7 I/O (io), A8 I/O (io), A10 I/O (io), A11 I/O (io), A13 I/O (io), A14 I/O (io), A16 I/O (io), A18 I/O (io), A19 I/O (io), A20 I/O (io), A22 I/O (io), A24 I/O (io), A25 I/O (io), A26 I/O (io), AF26 I/O (io), B1 I/O (io), B3 I/O (io), B9 I/O (io), B12 I/O (io), B13 I/O (io), B15 I/O (io), B16 I/O (io), B17 I/O (io), B18 I/O (io), B19 I/O (io), B20 I/O (io), B21 I/O (io), B22 I/O (io), B24 I/O (io), B25 I/O (io), C1 I/O (io), C2 I/O (io), C3 I/O (io), C5 I/O (io), C6 I/O (io), C7 I/O (io), C8 I/O (io), C9 I/O (io), C10 I/O (io), C11 I/O (io), C12 I/O (io), C13 I/O (io), C14 I/O (io), C15 I/O (io), C16 I/O (io), C19 I/O (io), C20 I/O (io), C21 I/O (io), C22 I/O (io), C23 I/O (io), C24 I/O (io), D1 I/O (io), D2 I/O (io), D3 I/O (io), D7 I/O (io), D8 I/O (io), D10 I/O (io), D11 I/O (io), D13 I/O (io), D14 I/O (io), D16 I/O (io), D17 I/O (io), D19 I/O (io), D22 I/O (io), D24 I/O (io), D25 I/O (io), D26 I/O (io), E1 I/O (io), E2 I/O (io), E3 I/O (io), E4 I/O (io), E10 I/O (io), E23 I/O (io), E24 I/O (io), E25 I/O (io), E26 I/O (io), F1 I/O (io), F2 I/O (io), F24 I/O (io), F25 I/O (io), F26 I/O (io), G1 I/O (io), G2 I/O (io), G3 I/O (io), G4 I/O (io), G24 I/O (io), G25 I/O (io), G26 I/O (io), H2 I/O (io), H4 I/O (io), H24 I/O (io), H26 I/O (io), J1 I/O (io), J2 I/O (io), J3 I/O (io), J24 I/O (io), J25 I/O (io), J26 I/O (io), K3 I/O (io), K4 I/O (io), K23 I/O (io), K24 I/O (io), K26 I/O (io), L1 I/O (io), L2 I/O (io), L3 I/O (io), L4 I/O (io), L23 I/O (io), L24 I/O (io), L26 I/O (io), M3 I/O (io), M24 I/O (io), M25 I/O (io), M26 I/O (io), N2 I/O (io), N3 I/O (io), N23 I/O (io), N24 I/O (io), N26 I/O (io), P1 I/O (io), P2 I/O (io), P4 I/O (io)
part B pins: AA1 I/O (io), AA2 I/O (io), AA24 I/O (io), AA25 I/O (io), AA26 I/O (io), AB2 I/O (io), AB3 I/O (io), AB4 I/O (io), AB13 I/O (io), AB16 I/O (io), AB23 I/O (io), AB25 I/O (io), AB26 I/O (io), AC1 I/O (io), AC2 I/O (io), AC11 I/O (io), AC13 I/O (io), AC19 I/O (io), AC20 I/O (io), AC21 I/O (io), AC25 I/O (io), AC26 I/O (io), AD1 I/O (io), AD3 I/O (io), AD4 I/O (io), AD5 I/O (io), AD6 I/O (io), AD7 I/O (io), AD8 I/O (io), AD10 I/O (io), AD12 I/O (io), AD13 I/O (io), AD14 I/O (io), AD15 I/O (io), AD16 I/O (io), AD17 I/O (io), AD18 I/O (io), AD21 I/O (io), AD22 I/O (io), AD23 TRSTB (in), AD25 I/O (io), AD26 I/O (io), AE1 TDI (in), AE2 I/O (io), AE3 I/O (io), AE4 I/O (io), AE5 I/O (io), AE6 I/O (io), AE7 I/O (io), AE8 I/O (io), AE9 I/O (io), AE10 I/O (io), AE11 I/O (io), AE12 I/O (io), AE13 I/O (io), AE14 I/O (io), AE15 I/O (io), AE16 I/O (io), AE17 I/O (io), AE18 I/O (io), AE19 I/O (io), AE20 I/O (io), AE21 I/O (io), AE24 TMS (in), AE25 I/O (io), AE26 I/O (io), AF1 I/O (io), AF3 I/O (io), AF5 I/O (io), AF6 I/O (io), AF7 I/O (io), AF8 I/O (io), AF9 I/O (io), AF10 I/O (io), AF12 I/O (io), AF13 I/O (io), AF16 I/O (io), AF17 I/O (io), AF18 I/O (io), AF20 I/O (io), AF21 I/O (io), AF22 I/O (io), AF23 I/O (io), AF24 I/O (io), AF25 I/O (io), B26 STM (in), C4 TDO (out), C25 TCK (in), M1 ACLK/I (in), M2 GCLK/I (in), N1 GCLK/I (in), N4 GCLK/I (in), P23 GCLK/I (in), P24 GCLK/I (in), P26 ACLK/I (in), R2 I/O (io), R3 I/O (io), R25 I/O (io), R26 GCLK/I (in), T1 I/O (io), T2 I/O (io), T3 I/O (io), T4 I/O (io), T23 I/O (io), T24 I/O (io), T26 I/O (io), U2 I/O (io), U3 I/O (io), U4 I/O (io), U23 I/O (io), U24 I/O (io), U25 I/O (io), U26 I/O (io), V1 I/O (io), V2 I/O (io), V24 I/O (io), V26 I/O (io), W1 I/O (io), W2 I/O (io), W3 I/O (io), W4 I/O (io), W23 I/O (io), W24 I/O (io), W25 I/O (io), Y2 I/O (io), Y4 I/O (io), Y5 I/O (io), Y23 I/O (io), Y25 I/O (io), Y26 I/O (io)
part C pins: A12 VCCIO (power), AA5 VCC (power), AA22 VCC (power), AB5 GND (power), AB6 VCC (power), AB10 VCC (power), AB11 GND (power), AB14 GND (power), AB15 VCC (power), AB18 VCC (power), AB19 GND (power), AB21 VCC (power), AB22 GND (power), AC4 GND (power), AC14 VCCIO (power), AC23 GND (power), D4 GND (power), D9 GND (power), D12 GND (power), D15 GND (power), D18 GND (power), D23 GND (power), E5 GND (power), E6 VCC (power), E7 GND (power), E9 GND (power), E11 GND (power), E12 GND (power), E13 VCC (power), E14 GND (power), E15 GND (power), E16 GND (power), E18 GND (power), E20 GND (power), E21 VCC (power), E22 GND (power), F5 VCC (power), F22 VCC (power), G22 GND (power), J5 GND (power), K5 VCC (power), K22 GND (power), L11 GND/THERM (power), L12 GND/THERM (power), L13 GND/THERM (power), L14 GND/THERM (power), L15 GND/THERM (power), L16 GND/THERM (power), M5 GND (power), M11 GND/THERM (power), M12 GND/THERM (power), M13 GND/THERM (power), M14 GND/THERM (power), M15 GND/THERM (power), M16 GND/THERM (power), N5 VCC (power), N11 GND/THERM (power), N12 GND/THERM (power), N13 GND/THERM (power), N14 GND/THERM (power), N15 GND/THERM (power), N16 GND/THERM (power), N22 GND (power), P11 GND/THERM (power), P12 GND/THERM (power), P13 GND/THERM (power), P14 GND/THERM (power), P15 GND/THERM (power), P16 GND/THERM (power), R11 GND/THERM (power), R12 GND/THERM (power), R13 GND/THERM (power), R14 GND/THERM (power), R15 GND/THERM (power), R16 GND/THERM (power), R22 VCC (power), T5 VCC (power), T11 GND/THERM (power), T12 GND/THERM (power), T13 GND/THERM (power), T14 GND/THERM (power), T15 GND/THERM (power), T16 GND/THERM (power), T22 GND (power), U5 GND (power), V22 GND (power), Y22 GND (power)
part D pins: A9 NC, A15 NC, A17 NC, A21 NC, A23 NC, AA3 NC, AA4 NC, AA23 NC, AB1 NC, AB7 NC, AB8 NC, AB9 NC, AB12 NC, AB17 NC, AB20 NC, AB24 NC, AC3 NC, AC5 NC, AC6 NC, AC7 NC, AC8 NC, AC9 NC, AC10 NC, AC12 NC, AC15 NC, AC16 NC, AC17 NC, AC18 NC, AC22 NC, AC24 NC, AD2 NC, AD9 NC, AD11 NC, AD19 NC, AD20 NC, AD24 NC, AE22 NC, AE23 NC, AF2 NC, AF4 NC, AF11 NC, AF14 NC, AF15 NC, AF19 NC, B2 NC, B4 NC, B5 NC, B6 NC, B7 NC, B8 NC, B10 NC, B11 NC, B14 NC, B23 NC, C17 NC, C18 NC, C26 NC, D5 NC, D6 NC, D20 NC, D21 NC, E8 NC, E17 NC, E19 NC, F3 NC, F4 NC, F23 NC, G5 NC, G23 NC, H1 NC, H3 NC, H5 NC, H22 NC, H23 NC, H25 NC, J4 NC, J22 NC, J23 NC, K1 NC, K2 NC, K25 NC, L5 NC, L22 NC, L25 NC, M4 NC, M22 NC, M23 NC, N25 NC, P3 NC, P5 NC, P22 NC, P25 NC, R1 NC, R4 NC, R5 NC, R23 NC, R24 NC, T25 NC, U1 NC, U22 NC, V3 NC, V4 NC, V5 NC, V23 NC, V25 NC, W5 NC, W22 NC, W26 NC, Y1 NC, Y3 NC, Y24 NC

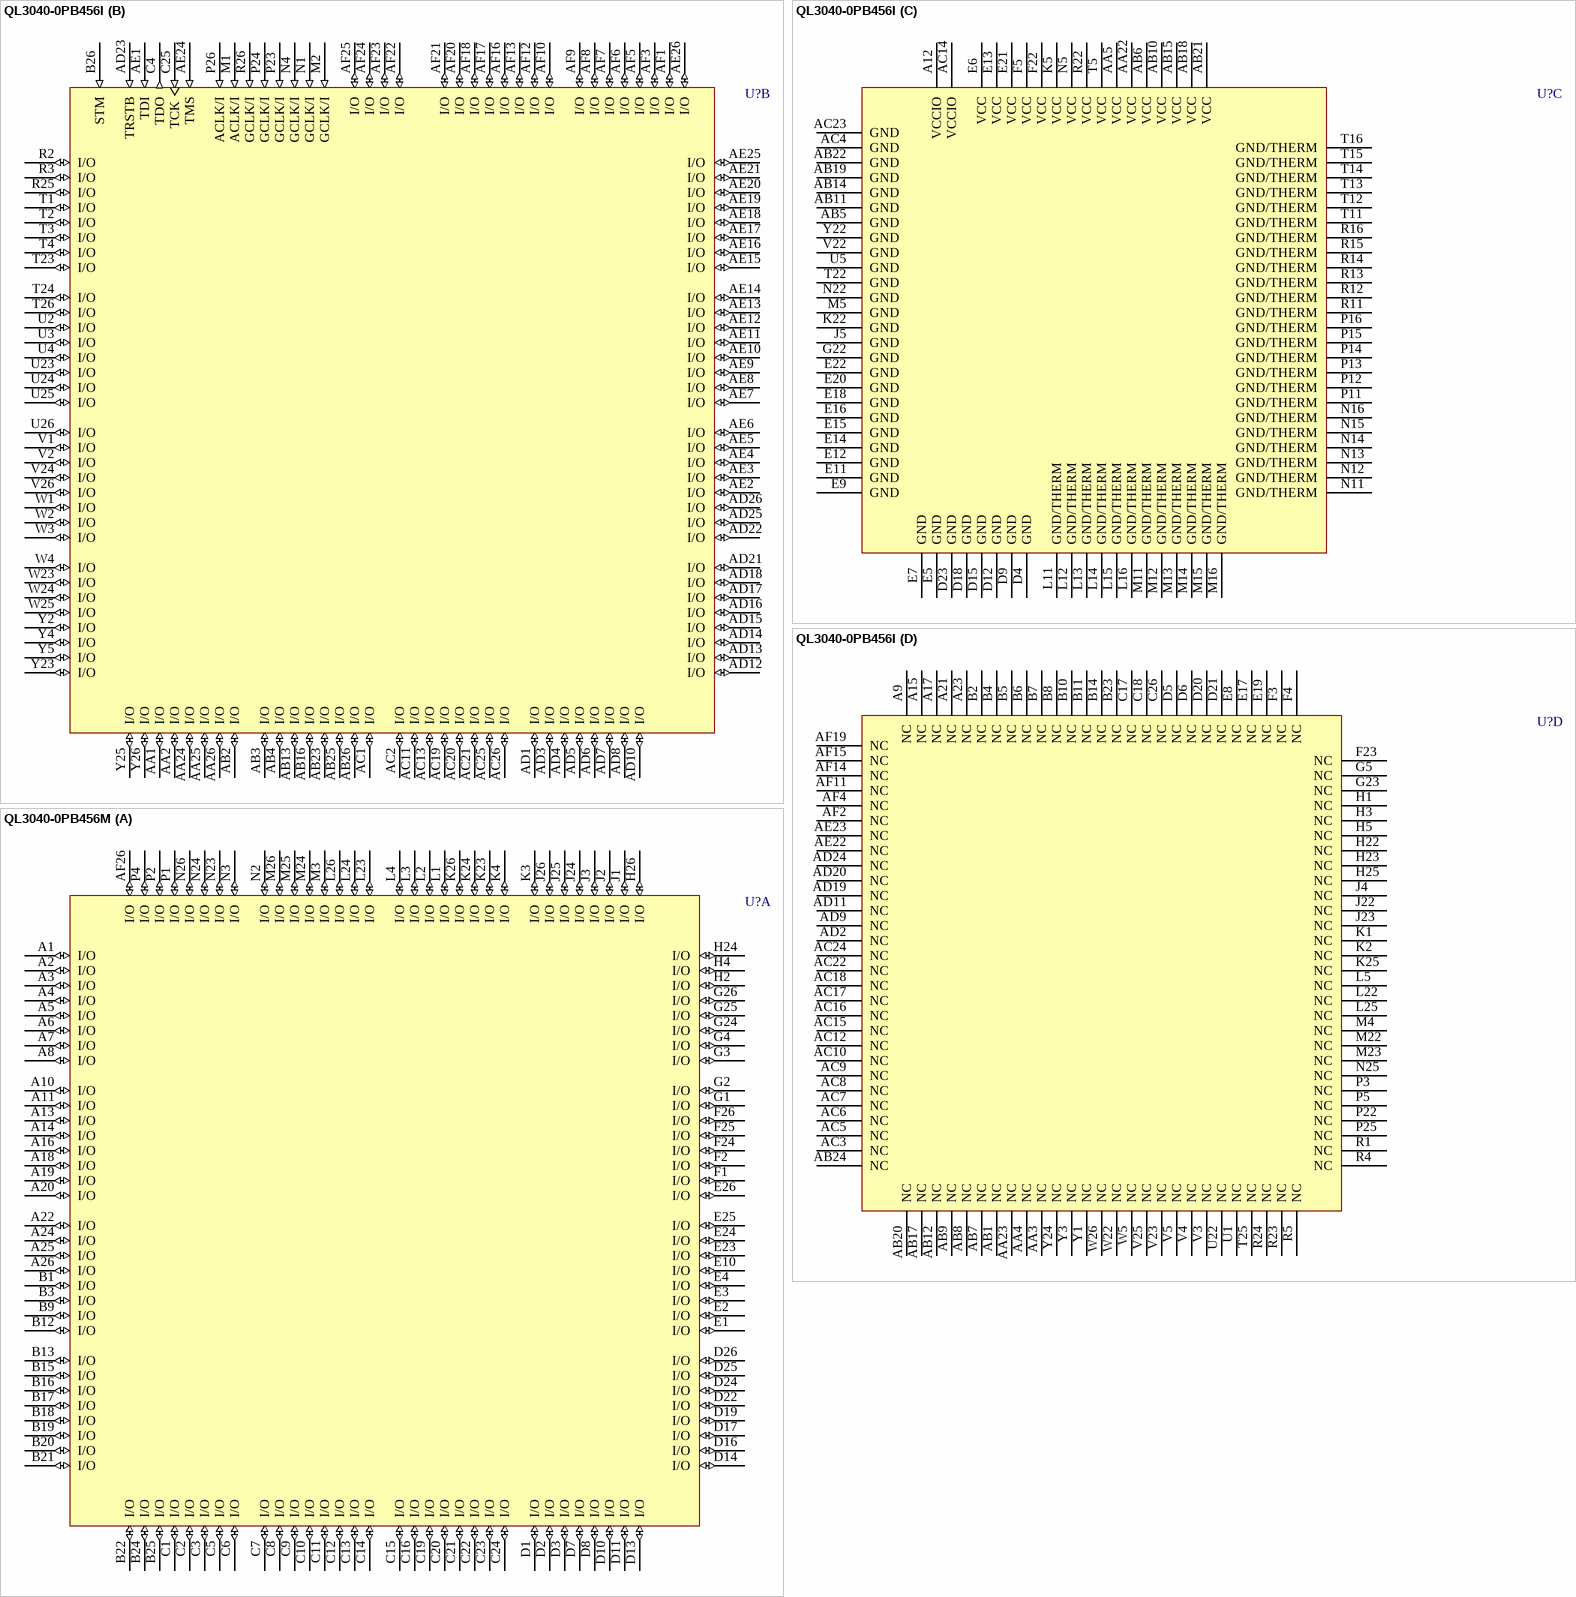
[diagram p61: symbols QL3040-0PB456I to QL3040-0PB456M]

## QL3040-0PB456I
designator U?
3.3V and 5.0V FPGA, 256 I/Os Max; Published: 21-May-2003; LatestRevisionDate: 13-Apr-2006; LatestRevisionNote: IPC-7351 Footprint Added.; DatasheetVersion: Rev. C, April 1999; PackageVersion: May-2001; PackageReference: PB456; Publisher: Altium Limited; PackageDescription: 456-Ball Ball Grid Array 1.27 mm Pitch; Code_JEDEC: MS-034-BAR-2; ComponentLink1Description: Manufacturer Link; ComponentLink1URL: http://www.quicklogic.com/; ComponentLink2Description: Datasheet; ComponentLink2URL: http://www.quicklogic.com/images/QL3040_DS.pdf
footprint PB456 (BGA, 456-Leads, Body 35x35mm, Pitch 1.27mm)
3D model QL3040-PB456 (456-Ball Ball Grid Array 1.27 mm Pitch)
part A pins: A1 I/O (io), A2 I/O (io), A3 I/O (io), A4 I/O (io), A5 I/O (io), A6 I/O (io), A7 I/O (io), A8 I/O (io), A10 I/O (io), A11 I/O (io), A13 I/O (io), A14 I/O (io), A16 I/O (io), A18 I/O (io), A19 I/O (io), A20 I/O (io), A22 I/O (io), A24 I/O (io), A25 I/O (io), A26 I/O (io), AF26 I/O (io), B1 I/O (io), B3 I/O (io), B9 I/O (io), B12 I/O (io), B13 I/O (io), B15 I/O (io), B16 I/O (io), B17 I/O (io), B18 I/O (io), B19 I/O (io), B20 I/O (io), B21 I/O (io), B22 I/O (io), B24 I/O (io), B25 I/O (io), C1 I/O (io), C2 I/O (io), C3 I/O (io), C5 I/O (io), C6 I/O (io), C7 I/O (io), C8 I/O (io), C9 I/O (io), C10 I/O (io), C11 I/O (io), C12 I/O (io), C13 I/O (io), C14 I/O (io), C15 I/O (io), C16 I/O (io), C19 I/O (io), C20 I/O (io), C21 I/O (io), C22 I/O (io), C23 I/O (io), C24 I/O (io), D1 I/O (io), D2 I/O (io), D3 I/O (io), D7 I/O (io), D8 I/O (io), D10 I/O (io), D11 I/O (io), D13 I/O (io), D14 I/O (io), D16 I/O (io), D17 I/O (io), D19 I/O (io), D22 I/O (io), D24 I/O (io), D25 I/O (io), D26 I/O (io), E1 I/O (io), E2 I/O (io), E3 I/O (io), E4 I/O (io), E10 I/O (io), E23 I/O (io), E24 I/O (io), E25 I/O (io), E26 I/O (io), F1 I/O (io), F2 I/O (io), F24 I/O (io), F25 I/O (io), F26 I/O (io), G1 I/O (io), G2 I/O (io), G3 I/O (io), G4 I/O (io), G24 I/O (io), G25 I/O (io), G26 I/O (io), H2 I/O (io), H4 I/O (io), H24 I/O (io), H26 I/O (io), J1 I/O (io), J2 I/O (io), J3 I/O (io), J24 I/O (io), J25 I/O (io), J26 I/O (io), K3 I/O (io), K4 I/O (io), K23 I/O (io), K24 I/O (io), K26 I/O (io), L1 I/O (io), L2 I/O (io), L3 I/O (io), L4 I/O (io), L23 I/O (io), L24 I/O (io), L26 I/O (io), M3 I/O (io), M24 I/O (io), M25 I/O (io), M26 I/O (io), N2 I/O (io), N3 I/O (io), N23 I/O (io), N24 I/O (io), N26 I/O (io), P1 I/O (io), P2 I/O (io), P4 I/O (io)
part B pins: AA1 I/O (io), AA2 I/O (io), AA24 I/O (io), AA25 I/O (io), AA26 I/O (io), AB2 I/O (io), AB3 I/O (io), AB4 I/O (io), AB13 I/O (io), AB16 I/O (io), AB23 I/O (io), AB25 I/O (io), AB26 I/O (io), AC1 I/O (io), AC2 I/O (io), AC11 I/O (io), AC13 I/O (io), AC19 I/O (io), AC20 I/O (io), AC21 I/O (io), AC25 I/O (io), AC26 I/O (io), AD1 I/O (io), AD3 I/O (io), AD4 I/O (io), AD5 I/O (io), AD6 I/O (io), AD7 I/O (io), AD8 I/O (io), AD10 I/O (io), AD12 I/O (io), AD13 I/O (io), AD14 I/O (io), AD15 I/O (io), AD16 I/O (io), AD17 I/O (io), AD18 I/O (io), AD21 I/O (io), AD22 I/O (io), AD23 TRSTB (in), AD25 I/O (io), AD26 I/O (io), AE1 TDI (in), AE2 I/O (io), AE3 I/O (io), AE4 I/O (io), AE5 I/O (io), AE6 I/O (io), AE7 I/O (io), AE8 I/O (io), AE9 I/O (io), AE10 I/O (io), AE11 I/O (io), AE12 I/O (io), AE13 I/O (io), AE14 I/O (io), AE15 I/O (io), AE16 I/O (io), AE17 I/O (io), AE18 I/O (io), AE19 I/O (io), AE20 I/O (io), AE21 I/O (io), AE24 TMS (in), AE25 I/O (io), AE26 I/O (io), AF1 I/O (io), AF3 I/O (io), AF5 I/O (io), AF6 I/O (io), AF7 I/O (io), AF8 I/O (io), AF9 I/O (io), AF10 I/O (io), AF12 I/O (io), AF13 I/O (io), AF16 I/O (io), AF17 I/O (io), AF18 I/O (io), AF20 I/O (io), AF21 I/O (io), AF22 I/O (io), AF23 I/O (io), AF24 I/O (io), AF25 I/O (io), B26 STM (in), C4 TDO (out), C25 TCK (in), M1 ACLK/I (in), M2 GCLK/I (in), N1 GCLK/I (in), N4 GCLK/I (in), P23 GCLK/I (in), P24 GCLK/I (in), P26 ACLK/I (in), R2 I/O (io), R3 I/O (io), R25 I/O (io), R26 GCLK/I (in), T1 I/O (io), T2 I/O (io), T3 I/O (io), T4 I/O (io), T23 I/O (io), T24 I/O (io), T26 I/O (io), U2 I/O (io), U3 I/O (io), U4 I/O (io), U23 I/O (io), U24 I/O (io), U25 I/O (io), U26 I/O (io), V1 I/O (io), V2 I/O (io), V24 I/O (io), V26 I/O (io), W1 I/O (io), W2 I/O (io), W3 I/O (io), W4 I/O (io), W23 I/O (io), W24 I/O (io), W25 I/O (io), Y2 I/O (io), Y4 I/O (io), Y5 I/O (io), Y23 I/O (io), Y25 I/O (io), Y26 I/O (io)
part C pins: A12 VCCIO (power), AA5 VCC (power), AA22 VCC (power), AB5 GND (power), AB6 VCC (power), AB10 VCC (power), AB11 GND (power), AB14 GND (power), AB15 VCC (power), AB18 VCC (power), AB19 GND (power), AB21 VCC (power), AB22 GND (power), AC4 GND (power), AC14 VCCIO (power), AC23 GND (power), D4 GND (power), D9 GND (power), D12 GND (power), D15 GND (power), D18 GND (power), D23 GND (power), E5 GND (power), E6 VCC (power), E7 GND (power), E9 GND (power), E11 GND (power), E12 GND (power), E13 VCC (power), E14 GND (power), E15 GND (power), E16 GND (power), E18 GND (power), E20 GND (power), E21 VCC (power), E22 GND (power), F5 VCC (power), F22 VCC (power), G22 GND (power), J5 GND (power), K5 VCC (power), K22 GND (power), L11 GND/THERM (power), L12 GND/THERM (power), L13 GND/THERM (power), L14 GND/THERM (power), L15 GND/THERM (power), L16 GND/THERM (power), M5 GND (power), M11 GND/THERM (power), M12 GND/THERM (power), M13 GND/THERM (power), M14 GND/THERM (power), M15 GND/THERM (power), M16 GND/THERM (power), N5 VCC (power), N11 GND/THERM (power), N12 GND/THERM (power), N13 GND/THERM (power), N14 GND/THERM (power), N15 GND/THERM (power), N16 GND/THERM (power), N22 GND (power), P11 GND/THERM (power), P12 GND/THERM (power), P13 GND/THERM (power), P14 GND/THERM (power), P15 GND/THERM (power), P16 GND/THERM (power), R11 GND/THERM (power), R12 GND/THERM (power), R13 GND/THERM (power), R14 GND/THERM (power), R15 GND/THERM (power), R16 GND/THERM (power), R22 VCC (power), T5 VCC (power), T11 GND/THERM (power), T12 GND/THERM (power), T13 GND/THERM (power), T14 GND/THERM (power), T15 GND/THERM (power), T16 GND/THERM (power), T22 GND (power), U5 GND (power), V22 GND (power), Y22 GND (power)
part D pins: A9 NC, A15 NC, A17 NC, A21 NC, A23 NC, AA3 NC, AA4 NC, AA23 NC, AB1 NC, AB7 NC, AB8 NC, AB9 NC, AB12 NC, AB17 NC, AB20 NC, AB24 NC, AC3 NC, AC5 NC, AC6 NC, AC7 NC, AC8 NC, AC9 NC, AC10 NC, AC12 NC, AC15 NC, AC16 NC, AC17 NC, AC18 NC, AC22 NC, AC24 NC, AD2 NC, AD9 NC, AD11 NC, AD19 NC, AD20 NC, AD24 NC, AE22 NC, AE23 NC, AF2 NC, AF4 NC, AF11 NC, AF14 NC, AF15 NC, AF19 NC, B2 NC, B4 NC, B5 NC, B6 NC, B7 NC, B8 NC, B10 NC, B11 NC, B14 NC, B23 NC, C17 NC, C18 NC, C26 NC, D5 NC, D6 NC, D20 NC, D21 NC, E8 NC, E17 NC, E19 NC, F3 NC, F4 NC, F23 NC, G5 NC, G23 NC, H1 NC, H3 NC, H5 NC, H22 NC, H23 NC, H25 NC, J4 NC, J22 NC, J23 NC, K1 NC, K2 NC, K25 NC, L5 NC, L22 NC, L25 NC, M4 NC, M22 NC, M23 NC, N25 NC, P3 NC, P5 NC, P22 NC, P25 NC, R1 NC, R4 NC, R5 NC, R23 NC, R24 NC, T25 NC, U1 NC, U22 NC, V3 NC, V4 NC, V5 NC, V23 NC, V25 NC, W5 NC, W22 NC, W26 NC, Y1 NC, Y3 NC, Y24 NC

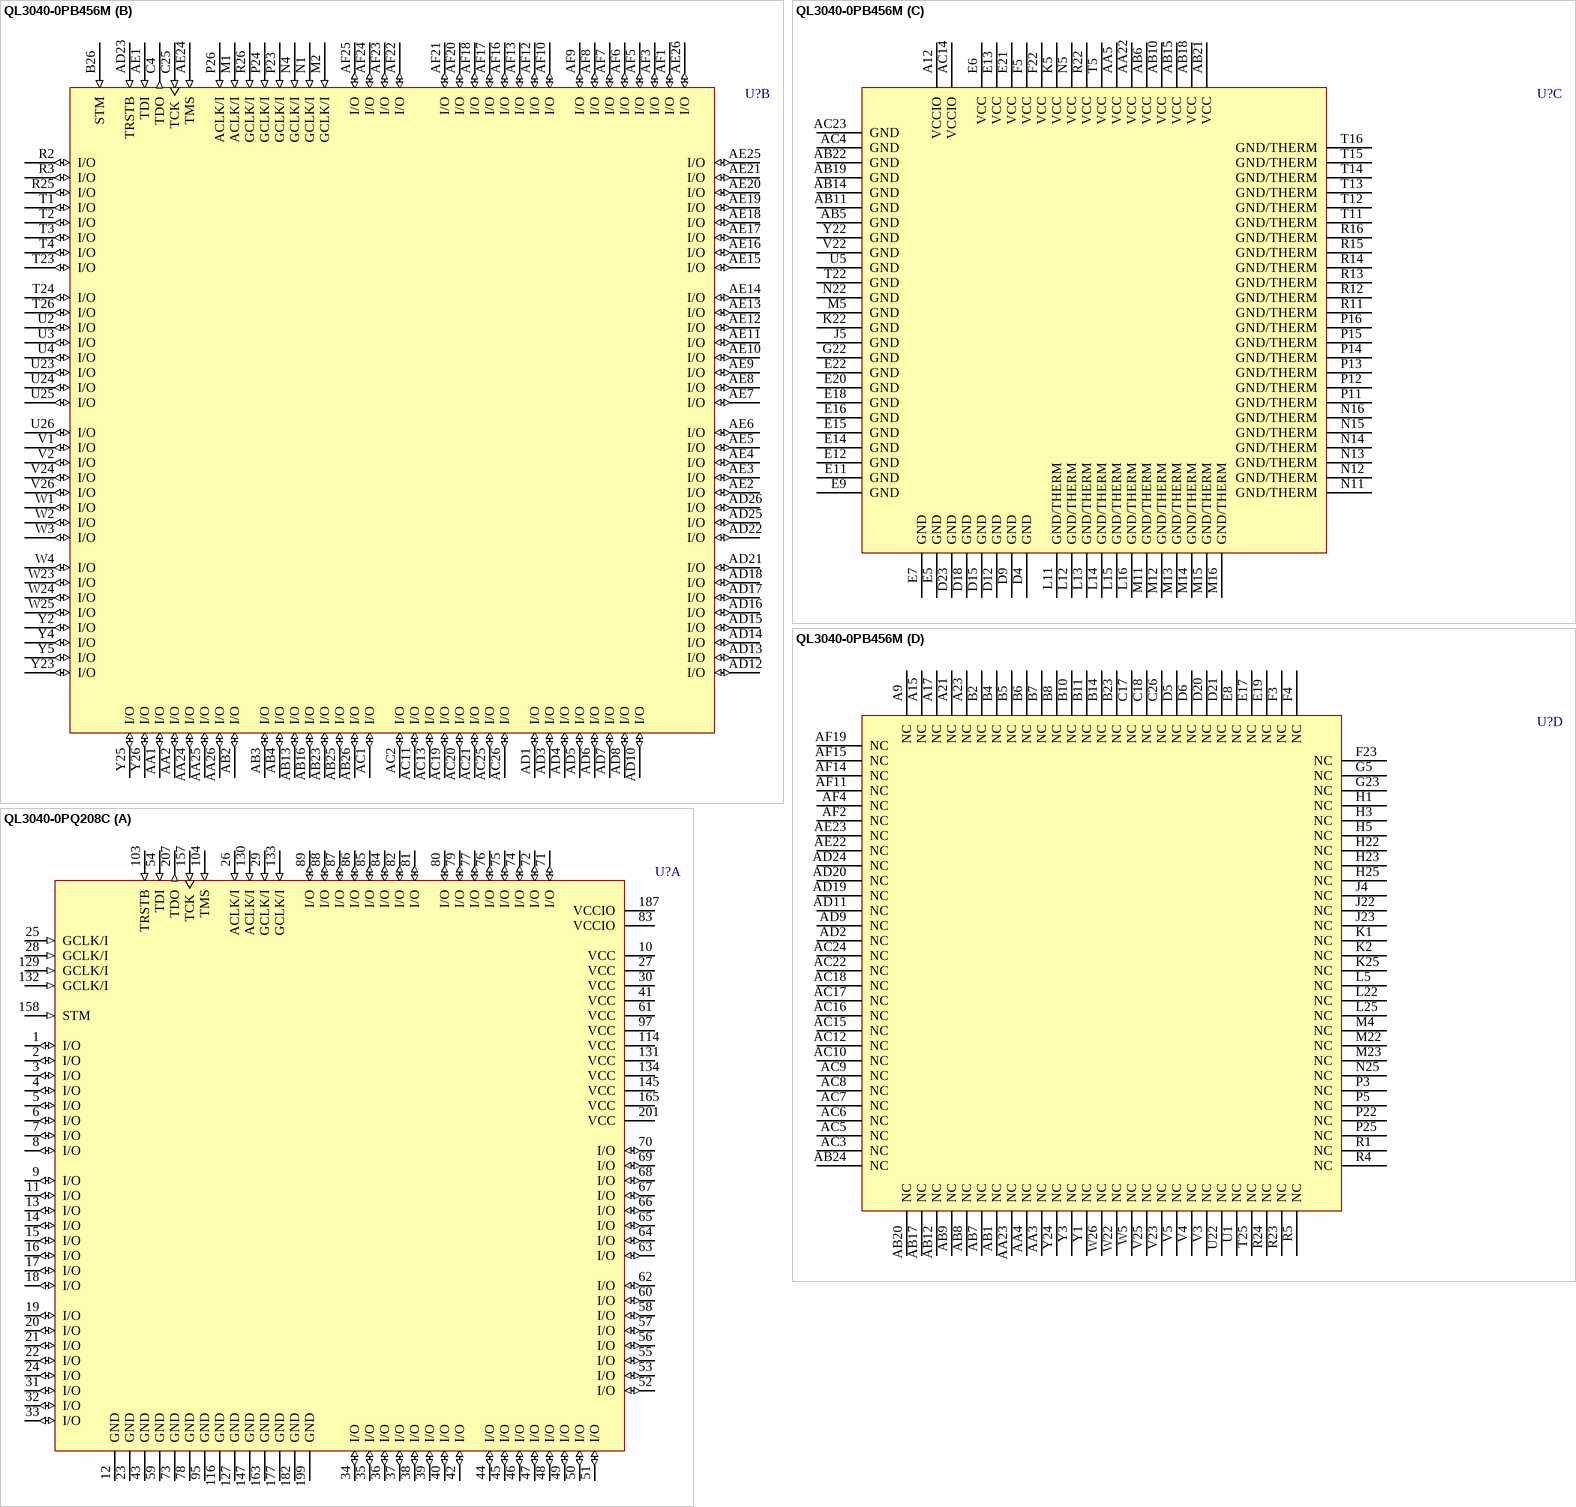
[diagram p62: symbols QL3040-0PB456M to QL3040-0PQ208C]

## QL3040-0PB456M
designator U?
3.3V and 5.0V FPGA, 256 I/Os Max; Published: 21-May-2003; LatestRevisionDate: 13-Apr-2006; LatestRevisionNote: IPC-7351 Footprint Added.; DatasheetVersion: Rev. C, April 1999; PackageVersion: May-2001; PackageReference: PB456; Publisher: Altium Limited; PackageDescription: 456-Ball Ball Grid Array 1.27 mm Pitch; Code_JEDEC: MS-034-BAR-2; ComponentLink1Description: Manufacturer Link; ComponentLink1URL: http://www.quicklogic.com/; ComponentLink2Description: Datasheet; ComponentLink2URL: http://www.quicklogic.com/images/QL3040_DS.pdf
footprint PB456 (BGA, 456-Leads, Body 35x35mm, Pitch 1.27mm)
3D model QL3040-PB456 (456-Ball Ball Grid Array 1.27 mm Pitch)
part A pins: A1 I/O (io), A2 I/O (io), A3 I/O (io), A4 I/O (io), A5 I/O (io), A6 I/O (io), A7 I/O (io), A8 I/O (io), A10 I/O (io), A11 I/O (io), A13 I/O (io), A14 I/O (io), A16 I/O (io), A18 I/O (io), A19 I/O (io), A20 I/O (io), A22 I/O (io), A24 I/O (io), A25 I/O (io), A26 I/O (io), AF26 I/O (io), B1 I/O (io), B3 I/O (io), B9 I/O (io), B12 I/O (io), B13 I/O (io), B15 I/O (io), B16 I/O (io), B17 I/O (io), B18 I/O (io), B19 I/O (io), B20 I/O (io), B21 I/O (io), B22 I/O (io), B24 I/O (io), B25 I/O (io), C1 I/O (io), C2 I/O (io), C3 I/O (io), C5 I/O (io), C6 I/O (io), C7 I/O (io), C8 I/O (io), C9 I/O (io), C10 I/O (io), C11 I/O (io), C12 I/O (io), C13 I/O (io), C14 I/O (io), C15 I/O (io), C16 I/O (io), C19 I/O (io), C20 I/O (io), C21 I/O (io), C22 I/O (io), C23 I/O (io), C24 I/O (io), D1 I/O (io), D2 I/O (io), D3 I/O (io), D7 I/O (io), D8 I/O (io), D10 I/O (io), D11 I/O (io), D13 I/O (io), D14 I/O (io), D16 I/O (io), D17 I/O (io), D19 I/O (io), D22 I/O (io), D24 I/O (io), D25 I/O (io), D26 I/O (io), E1 I/O (io), E2 I/O (io), E3 I/O (io), E4 I/O (io), E10 I/O (io), E23 I/O (io), E24 I/O (io), E25 I/O (io), E26 I/O (io), F1 I/O (io), F2 I/O (io), F24 I/O (io), F25 I/O (io), F26 I/O (io), G1 I/O (io), G2 I/O (io), G3 I/O (io), G4 I/O (io), G24 I/O (io), G25 I/O (io), G26 I/O (io), H2 I/O (io), H4 I/O (io), H24 I/O (io), H26 I/O (io), J1 I/O (io), J2 I/O (io), J3 I/O (io), J24 I/O (io), J25 I/O (io), J26 I/O (io), K3 I/O (io), K4 I/O (io), K23 I/O (io), K24 I/O (io), K26 I/O (io), L1 I/O (io), L2 I/O (io), L3 I/O (io), L4 I/O (io), L23 I/O (io), L24 I/O (io), L26 I/O (io), M3 I/O (io), M24 I/O (io), M25 I/O (io), M26 I/O (io), N2 I/O (io), N3 I/O (io), N23 I/O (io), N24 I/O (io), N26 I/O (io), P1 I/O (io), P2 I/O (io), P4 I/O (io)
part B pins: AA1 I/O (io), AA2 I/O (io), AA24 I/O (io), AA25 I/O (io), AA26 I/O (io), AB2 I/O (io), AB3 I/O (io), AB4 I/O (io), AB13 I/O (io), AB16 I/O (io), AB23 I/O (io), AB25 I/O (io), AB26 I/O (io), AC1 I/O (io), AC2 I/O (io), AC11 I/O (io), AC13 I/O (io), AC19 I/O (io), AC20 I/O (io), AC21 I/O (io), AC25 I/O (io), AC26 I/O (io), AD1 I/O (io), AD3 I/O (io), AD4 I/O (io), AD5 I/O (io), AD6 I/O (io), AD7 I/O (io), AD8 I/O (io), AD10 I/O (io), AD12 I/O (io), AD13 I/O (io), AD14 I/O (io), AD15 I/O (io), AD16 I/O (io), AD17 I/O (io), AD18 I/O (io), AD21 I/O (io), AD22 I/O (io), AD23 TRSTB (in), AD25 I/O (io), AD26 I/O (io), AE1 TDI (in), AE2 I/O (io), AE3 I/O (io), AE4 I/O (io), AE5 I/O (io), AE6 I/O (io), AE7 I/O (io), AE8 I/O (io), AE9 I/O (io), AE10 I/O (io), AE11 I/O (io), AE12 I/O (io), AE13 I/O (io), AE14 I/O (io), AE15 I/O (io), AE16 I/O (io), AE17 I/O (io), AE18 I/O (io), AE19 I/O (io), AE20 I/O (io), AE21 I/O (io), AE24 TMS (in), AE25 I/O (io), AE26 I/O (io), AF1 I/O (io), AF3 I/O (io), AF5 I/O (io), AF6 I/O (io), AF7 I/O (io), AF8 I/O (io), AF9 I/O (io), AF10 I/O (io), AF12 I/O (io), AF13 I/O (io), AF16 I/O (io), AF17 I/O (io), AF18 I/O (io), AF20 I/O (io), AF21 I/O (io), AF22 I/O (io), AF23 I/O (io), AF24 I/O (io), AF25 I/O (io), B26 STM (in), C4 TDO (out), C25 TCK (in), M1 ACLK/I (in), M2 GCLK/I (in), N1 GCLK/I (in), N4 GCLK/I (in), P23 GCLK/I (in), P24 GCLK/I (in), P26 ACLK/I (in), R2 I/O (io), R3 I/O (io), R25 I/O (io), R26 GCLK/I (in), T1 I/O (io), T2 I/O (io), T3 I/O (io), T4 I/O (io), T23 I/O (io), T24 I/O (io), T26 I/O (io), U2 I/O (io), U3 I/O (io), U4 I/O (io), U23 I/O (io), U24 I/O (io), U25 I/O (io), U26 I/O (io), V1 I/O (io), V2 I/O (io), V24 I/O (io), V26 I/O (io), W1 I/O (io), W2 I/O (io), W3 I/O (io), W4 I/O (io), W23 I/O (io), W24 I/O (io), W25 I/O (io), Y2 I/O (io), Y4 I/O (io), Y5 I/O (io), Y23 I/O (io), Y25 I/O (io), Y26 I/O (io)
part C pins: A12 VCCIO (power), AA5 VCC (power), AA22 VCC (power), AB5 GND (power), AB6 VCC (power), AB10 VCC (power), AB11 GND (power), AB14 GND (power), AB15 VCC (power), AB18 VCC (power), AB19 GND (power), AB21 VCC (power), AB22 GND (power), AC4 GND (power), AC14 VCCIO (power), AC23 GND (power), D4 GND (power), D9 GND (power), D12 GND (power), D15 GND (power), D18 GND (power), D23 GND (power), E5 GND (power), E6 VCC (power), E7 GND (power), E9 GND (power), E11 GND (power), E12 GND (power), E13 VCC (power), E14 GND (power), E15 GND (power), E16 GND (power), E18 GND (power), E20 GND (power), E21 VCC (power), E22 GND (power), F5 VCC (power), F22 VCC (power), G22 GND (power), J5 GND (power), K5 VCC (power), K22 GND (power), L11 GND/THERM (power), L12 GND/THERM (power), L13 GND/THERM (power), L14 GND/THERM (power), L15 GND/THERM (power), L16 GND/THERM (power), M5 GND (power), M11 GND/THERM (power), M12 GND/THERM (power), M13 GND/THERM (power), M14 GND/THERM (power), M15 GND/THERM (power), M16 GND/THERM (power), N5 VCC (power), N11 GND/THERM (power), N12 GND/THERM (power), N13 GND/THERM (power), N14 GND/THERM (power), N15 GND/THERM (power), N16 GND/THERM (power), N22 GND (power), P11 GND/THERM (power), P12 GND/THERM (power), P13 GND/THERM (power), P14 GND/THERM (power), P15 GND/THERM (power), P16 GND/THERM (power), R11 GND/THERM (power), R12 GND/THERM (power), R13 GND/THERM (power), R14 GND/THERM (power), R15 GND/THERM (power), R16 GND/THERM (power), R22 VCC (power), T5 VCC (power), T11 GND/THERM (power), T12 GND/THERM (power), T13 GND/THERM (power), T14 GND/THERM (power), T15 GND/THERM (power), T16 GND/THERM (power), T22 GND (power), U5 GND (power), V22 GND (power), Y22 GND (power)
part D pins: A9 NC, A15 NC, A17 NC, A21 NC, A23 NC, AA3 NC, AA4 NC, AA23 NC, AB1 NC, AB7 NC, AB8 NC, AB9 NC, AB12 NC, AB17 NC, AB20 NC, AB24 NC, AC3 NC, AC5 NC, AC6 NC, AC7 NC, AC8 NC, AC9 NC, AC10 NC, AC12 NC, AC15 NC, AC16 NC, AC17 NC, AC18 NC, AC22 NC, AC24 NC, AD2 NC, AD9 NC, AD11 NC, AD19 NC, AD20 NC, AD24 NC, AE22 NC, AE23 NC, AF2 NC, AF4 NC, AF11 NC, AF14 NC, AF15 NC, AF19 NC, B2 NC, B4 NC, B5 NC, B6 NC, B7 NC, B8 NC, B10 NC, B11 NC, B14 NC, B23 NC, C17 NC, C18 NC, C26 NC, D5 NC, D6 NC, D20 NC, D21 NC, E8 NC, E17 NC, E19 NC, F3 NC, F4 NC, F23 NC, G5 NC, G23 NC, H1 NC, H3 NC, H5 NC, H22 NC, H23 NC, H25 NC, J4 NC, J22 NC, J23 NC, K1 NC, K2 NC, K25 NC, L5 NC, L22 NC, L25 NC, M4 NC, M22 NC, M23 NC, N25 NC, P3 NC, P5 NC, P22 NC, P25 NC, R1 NC, R4 NC, R5 NC, R23 NC, R24 NC, T25 NC, U1 NC, U22 NC, V3 NC, V4 NC, V5 NC, V23 NC, V25 NC, W5 NC, W22 NC, W26 NC, Y1 NC, Y3 NC, Y24 NC

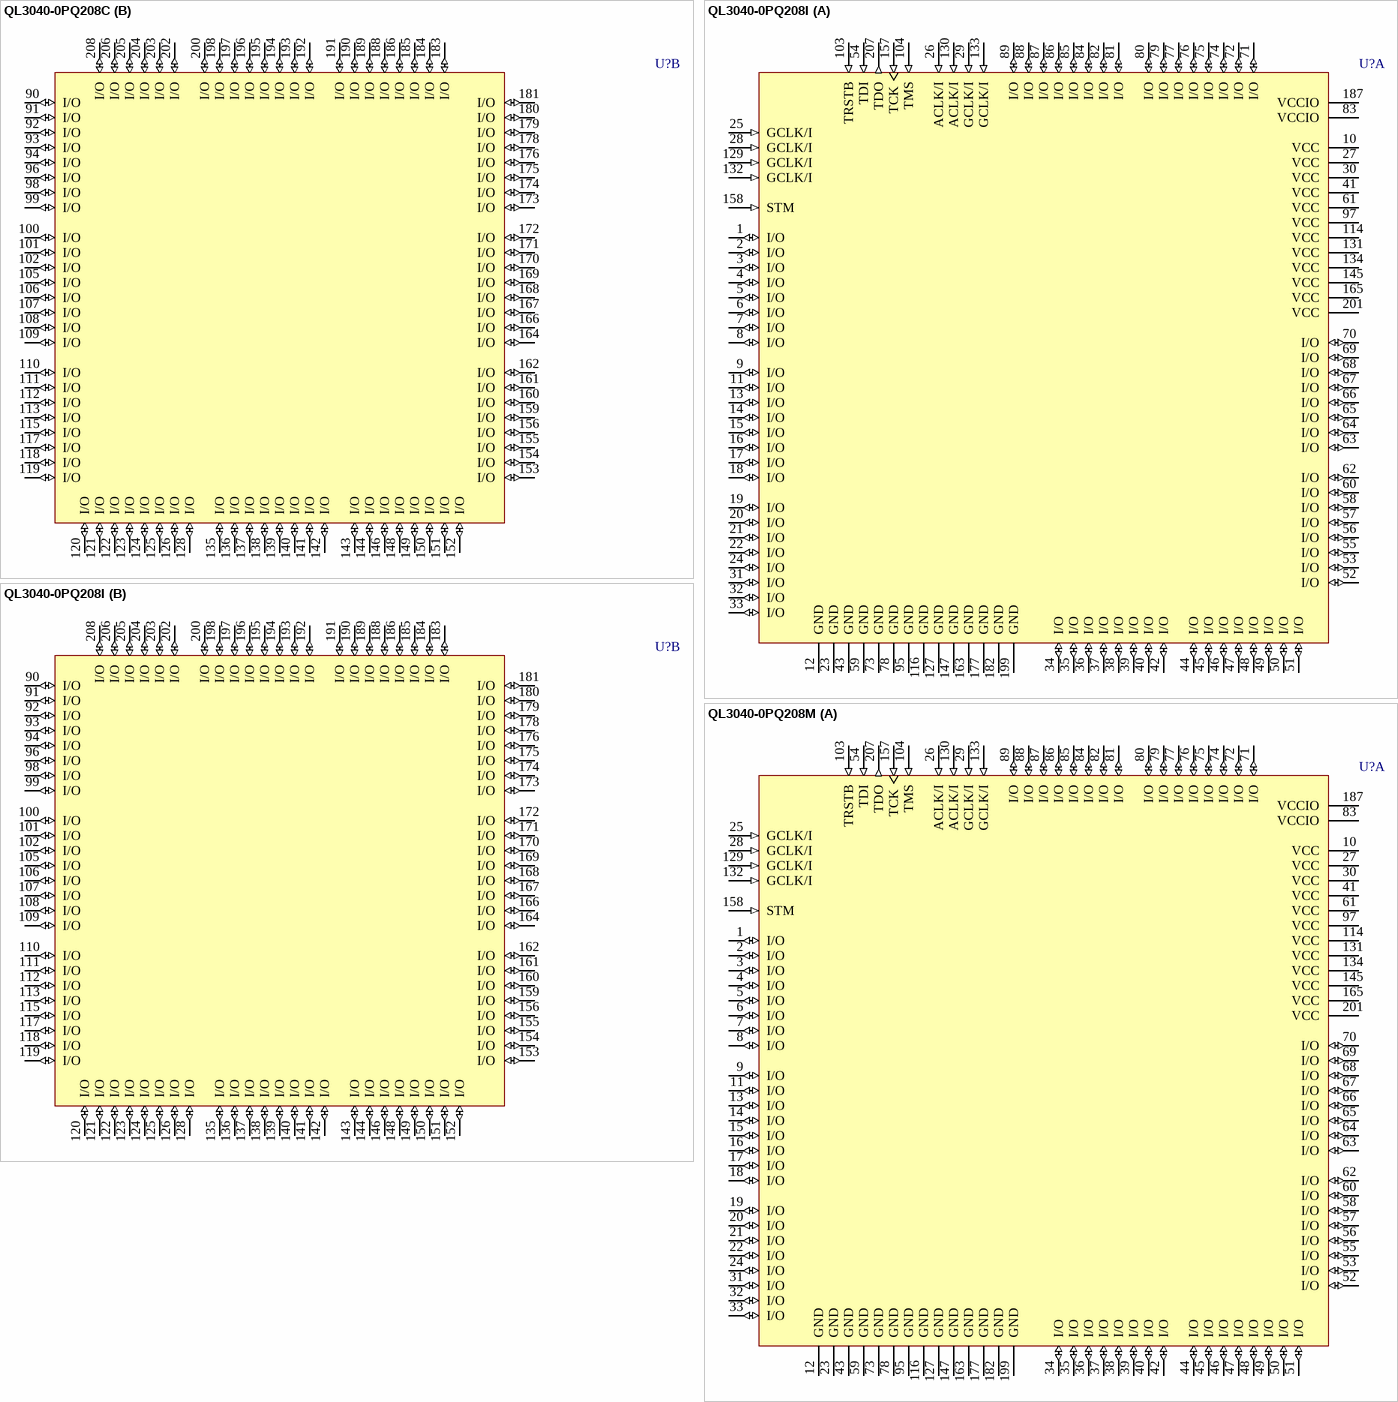
[diagram p63: symbols QL3040-0PQ208C to QL3040-0PQ208M]